# Altium integrated library Altera APEX II.IntLib: 30 symbols (part 12 of 15)
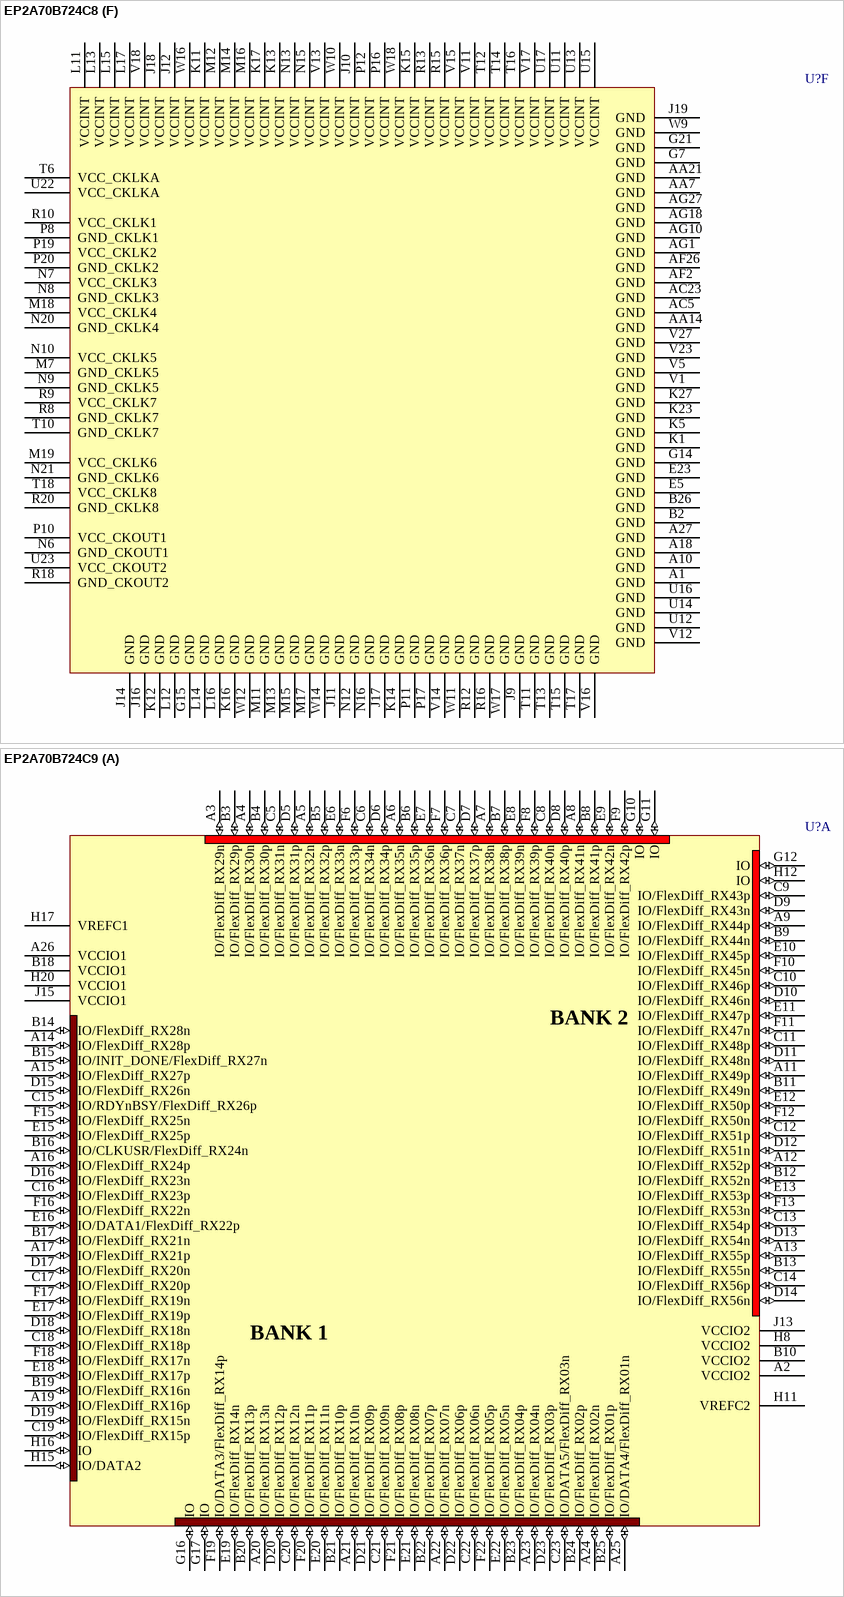
[diagram p141: symbols EP2A70B724C8 to EP2A70B724C9]

## EP2A70B724C8
designator U?
APEX II, 1.5V FPGA with 4 PLLs, 536 I/O pins, Commercial Grade, Speed Grade 8; Published: 23-Sep-2002; LatestRevisionDate: 13-Apr-2006; LatestRevisionNote: IPC-7351 Footprint Added.; DatasheetVersion: ver3.0, Aug-2002; PackageVersion: ver14.1, Oct-2005; PackageReference: BGA724; Publisher: Altium Limited; PackageDescription: 724-Ball Ball Grid Array (BGA724) - Flip Chip; Code_JEDEC: MS-034-BAR-1; ComponentLink1Description: Manufacturer Link; ComponentLink1URL: http://www.altera.com/products/devices/apex2/ap2-index.html; ComponentLink2Description: Datasheet; ComponentLink2URL: http://www.altera.com/literature/ds/ds_ap2.pdf
footprint BGA724 (BGA, 724-Leads, Body 35x35mm, Pitch 1.27mm)
3D model EP2A70-BGA724 (724-Ball Ball Grid Array (BGA724) - Flip Chip)
part A pins: A2 VCCIO2 (power), A3 IO/FlexDiff_RX29n (io), A4 IO/FlexDiff_RX30n (io), A5 IO/FlexDiff_RX32n (io), A6 IO/FlexDiff_RX35n (io), A7 IO/FlexDiff_RX38n (io), A8 IO/FlexDiff_RX41n (io), A9 IO/FlexDiff_RX44p (io), A11 IO/FlexDiff_RX49p (io), A12 IO/FlexDiff_RX52p (io), A13 IO/FlexDiff_RX55p (io), A14 IO/FlexDiff_RX28p (io), A15 IO/FlexDiff_RX27p (io), A16 IO/FlexDiff_RX24p (io), A17 IO/FlexDiff_RX21p (io), A19 IO/FlexDiff_RX16p (io), A20 IO/FlexDiff_RX13n (io), A21 IO/FlexDiff_RX10n (io), A22 IO/FlexDiff_RX07n (io), A23 IO/FlexDiff_RX04n (io), A24 IO/FlexDiff_RX02n (io), A25 IO/DATA4/FlexDiff_RX01n (io), A26 VCCIO1 (power), B3 IO/FlexDiff_RX29p (io), B4 IO/FlexDiff_RX30p (io), B5 IO/FlexDiff_RX32p (io), B6 IO/FlexDiff_RX35p (io), B7 IO/FlexDiff_RX38p (io), B8 IO/FlexDiff_RX41p (io), B9 IO/FlexDiff_RX44n (io), B10 VCCIO2 (power), B11 IO/FlexDiff_RX49n (io), B12 IO/FlexDiff_RX52n (io), B13 IO/FlexDiff_RX55n (io), B14 IO/FlexDiff_RX28n (io), B15 IO/INIT_DONE/FlexDiff_RX27n (io), B16 IO/CLKUSR/FlexDiff_RX24n (io), B17 IO/FlexDiff_RX21n (io), B18 VCCIO1 (power), B19 IO/FlexDiff_RX16n (io), B20 IO/FlexDiff_RX13p (io), B21 IO/FlexDiff_RX10p (io), B22 IO/FlexDiff_RX07p (io), B23 IO/FlexDiff_RX04p (io), B24 IO/FlexDiff_RX02p (io), B25 IO/FlexDiff_RX01p (io), C5 IO/FlexDiff_RX31n (io), C6 IO/FlexDiff_RX34n (io), C7 IO/FlexDiff_RX37n (io), C8 IO/FlexDiff_RX40n (io), C9 IO/FlexDiff_RX43p (io), C10 IO/FlexDiff_RX46p (io), C11 IO/FlexDiff_RX48p (io), C12 IO/FlexDiff_RX51p (io), C13 IO/FlexDiff_RX54p (io), C14 IO/FlexDiff_RX56p (io), C15 IO/RDYnBSY/FlexDiff_RX26p (io), C16 IO/FlexDiff_RX23p (io), C17 IO/FlexDiff_RX20p (io), C18 IO/FlexDiff_RX18p (io), C19 IO/FlexDiff_RX15p (io), C20 IO/FlexDiff_RX12n (io), C21 IO/FlexDiff_RX09n (io), C22 IO/FlexDiff_RX06n (io), C23 IO/DATA5/FlexDiff_RX03n (io), D5 IO/FlexDiff_RX31p (io), D6 IO/FlexDiff_RX34p (io), D7 IO/FlexDiff_RX37p (io), D8 IO/FlexDiff_RX40p (io), D9 IO/FlexDiff_RX43n (io), D10 IO/FlexDiff_RX46n (io), D11 IO/FlexDiff_RX48n (io), D12 IO/FlexDiff_RX51n (io), D13 IO/FlexDiff_RX54n (io), D14 IO/FlexDiff_RX56n (io), D15 IO/FlexDiff_RX26n (io), D16 IO/FlexDiff_RX23n (io), D17 IO/FlexDiff_RX20n (io), D18 IO/FlexDiff_RX18n (io), D19 IO/FlexDiff_RX15n (io), D20 IO/FlexDiff_RX12p (io), D21 IO/FlexDiff_RX09p (io), D22 IO/FlexDiff_RX06p (io), D23 IO/FlexDiff_RX03p (io), E6 IO/FlexDiff_RX33n (io), E7 IO/FlexDiff_RX36n (io), E8 IO/FlexDiff_RX39n (io), E9 IO/FlexDiff_RX42n (io), E10 IO/FlexDiff_RX45p (io), E11 IO/FlexDiff_RX47p (io), E12 IO/FlexDiff_RX50p (io), E13 IO/FlexDiff_RX53p (io), E15 IO/FlexDiff_RX25p (io), E16 IO/DATA1/FlexDiff_RX22p (io), E17 IO/FlexDiff_RX19p (io), E18 IO/FlexDiff_RX17p (io), E19 IO/FlexDiff_RX14n (io), E20 IO/FlexDiff_RX11n (io), E21 IO/FlexDiff_RX08n (io), E22 IO/FlexDiff_RX05n (io), F6 IO/FlexDiff_RX33p (io), F7 IO/FlexDiff_RX36p (io), F8 IO/FlexDiff_RX39p (io), F9 IO/FlexDiff_RX42p (io), F10 IO/FlexDiff_RX45n (io), F11 IO/FlexDiff_RX47n (io), F12 IO/FlexDiff_RX50n (io), F13 IO/FlexDiff_RX53n (io), F15 IO/FlexDiff_RX25n (io), F16 IO/FlexDiff_RX22n (io), F17 IO/FlexDiff_RX19n (io), F18 IO/FlexDiff_RX17n (io), F19 IO/DATA3/FlexDiff_RX14p (io), F20 IO/FlexDiff_RX11p (io), F21 IO/FlexDiff_RX08p (io), F22 IO/FlexDiff_RX05p (io), G10 IO (io), G11 IO (io), G12 IO (io), G16 IO (io), G17 IO (io), H8 VCCIO2 (power), H11 VREFC2 (power), H12 IO (io), H15 IO/DATA2 (io), H16 IO (io), H17 VREFC1 (power), H20 VCCIO1 (power), J13 VCCIO2 (power), J15 VCCIO1 (power)
part B pins: AA1 IO/TrueDiff_RX28n (io), AA2 IO/TrueDiff_RX28p (io), AA3 IO/TrueDiff_RX27p (io), AA4 IO/TrueDiff_RX27n (io), AA5 IO (io), AA6 IO (io), AA8 IO (io), AA9 IO (io), AB1 IO/TrueDiff_RX26n (io), AB2 IO/TrueDiff_RX26p (io), AB3 IO/TrueDiff_RX25p (io), AB4 IO/TrueDiff_RX25n (io), AB5 IO (io), AC1 IO/TrueDiff_RX24n (io), AC2 IO/TrueDiff_RX24p (io), AC3 IO/TrueDiff_RX23p (io), AC4 IO/TrueDiff_RX23n (io), AD1 IO/TrueDiff_RX22n (io), AD2 IO/TrueDiff_RX22p (io), AD3 IO/TrueDiff_RX21p (io), AD4 IO/TrueDiff_RX21n (io), AE1 IO/TrueDiff_RX20n (io), AE2 IO/TrueDiff_RX20p (io), AE3 IO/TrueDiff_RX19p (io), AE4 IO/TrueDiff_RX19n (io), AF1 VCCIO4 (power), B1 VCCIO3 (power), C1 IO/TrueDiff_RX02n (io), C2 IO/TrueDiff_RX02p (io), C3 IO/TrueDiff_RX01p (io), C4 IO/TrueDiff_RX01n (io), D1 IO/TrueDiff_RX04n (io), D2 IO/TrueDiff_RX04p (io), D3 IO/TrueDiff_RX03p (io), D4 IO/TrueDiff_RX03n (io), E1 IO/TrueDiff_RX06n (io), E2 IO/TrueDiff_RX06p (io), E3 IO/TrueDiff_RX05p (io), E4 IO/TrueDiff_RX05n (io), F1 IO/TrueDiff_RX08n (io), F2 IO/TrueDiff_RX08p (io), F3 IO/TrueDiff_RX07p (io), F4 IO/TrueDiff_RX07n (io), F5 IO (io), G1 IO/TrueDiff_RX10n (io), G2 IO/TrueDiff_RX10p (io), G3 IO/TrueDiff_RX09p (io), G4 IO/TrueDiff_RX09n (io), G5 IO (io), G6 IO (io), G8 IO (io), G9 IO (io), H1 IO/TrueDiff_RX12n (io), H2 IO/TrueDiff_RX12p (io), H3 IO/TrueDiff_RX11p (io), H4 IO/TrueDiff_RX11n (io), H5 IO (io), H6 IO (io), H7 IO (io), H9 IO (io), H10 IO (io), J1 IO/TrueDiff_RX14n (io), J2 IO/TrueDiff_RX14p (io), J3 IO/TrueDiff_RX13p (io), J4 IO/TrueDiff_RX13n (io), J5 IO (io), J6 IO (io), J7 IO (io), J8 IO (io), K2 VCCIO3 (power), K3 IO/TrueDiff_RX15p (io), K4 IO/TrueDiff_RX15n (io), K6 IO (io), K7 IO (io), K8 IO (io), K9 IO (io), K10 VCCIO3 (power), L1 IO/TrueDiff_RX17p (io), L2 IO/TrueDiff_RX17n (io), L3 IO/TrueDiff_RX16n (io), L4 IO/TrueDiff_RX16p (io), L5 IO (io), L6 IO/LOCK3 (io), L7 IO/RXLOCK1 (io), L8 IO (io), L9 IO (io), L10 IO (io), M1 IO/TrueDiff_RX18n (io), M2 IO/TrueDiff_RX18p (io), M3 CLK7p (in), M4 IO/CLK7n (io), M5 IO (io), M6 IO (io), M8 IO (io), M9 IO (io), M10 VREFC3 (power), N1 IO/RXCLK_IN1n (io), N2 IO/RXCLK_IN1p (io), N3 IO/CLK5n (io), N4 CLK5p (in), N11 VCCIO3 (power), P1 IO/CLKLK_OUT1n (io), P2 CLKLK_OUT1p (out), P3 CLK1p (in), P4 IO/CLK1n (io), R1 IO/RXCLK_IN2n (io), R2 IO/RXCLK_IN2p (io), R3 CLK3p (in), R4 IO/CLK3n (io), R5 IO (io), R6 IO (io), R7 IO (io), R11 VCCIO4 (power), T1 IO/TrueDiff_RX36n (io), T2 IO/TrueDiff_RX36p (io), T3 IO/CLKLK_FB1n (io), T4 CLKLK_FB1p, T5 IO/LOCK1 (io), T7 IO (io), T8 IO (io), T9 VREFC4 (power), U1 IO/TrueDiff_RX35p (io), U2 IO/TrueDiff_RX35n (io), U3 IO/TrueDiff_RX34n (io), U4 IO/TrueDiff_RX34p (io), U5 IO (io), U6 IO (io), U7 IO (io), U8 IO (io), U9 IO (io), U10 IO (io), V2 VCCIO4 (power), V3 IO/TrueDiff_RX33p (io), V4 IO/TrueDiff_RX33n (io), V6 IO/RXLOCK2 (io), V7 IO (io), V8 IO (io), V9 IO (io), V10 VCCIO4 (power), W1 IO/TrueDiff_RX32n (io), W2 IO/TrueDiff_RX32p (io), W3 IO/TrueDiff_RX31p (io), W4 IO/TrueDiff_RX31n (io), W5 IO (io), W6 IO (io), W7 IO (io), W8 IO (io), Y1 IO/TrueDiff_RX30n (io), Y2 IO/TrueDiff_RX30p (io), Y3 IO/TrueDiff_RX29p (io), Y4 IO/TrueDiff_RX29n (io), Y5 IO (io), Y6 IO (io), Y7 IO (io), Y9 IO (io), Y10 IO (io), Y11 IO (io), Y12 IO (io)
part C pins: AA10 IO (io), AA11 IO (io), AA12 VREFC5 (power), AA13 IO (io), AA17 IO (io), AA18 IO (io), AB6 IO/FlexDiff_TX33n (io), AB7 IO/FlexDiff_TX36p (io), AB8 IO/FlexDiff_TX39n (io), AB9 IO/FlexDiff_TX42p (io), AB10 IO/FlexDiff_TX45n (io), AB11 IO/FlexDiff_TX47n (io), AB12 IO/FlexDiff_TX50n (io), AB13 IO/FlexDiff_TX53n (io), AB15 IO/FlexDiff_TX25p (io), AB16 IO/FlexDiff_TX22p (io), AB17 IO/FlexDiff_TX19p (io), AB18 IO/FlexDiff_TX17n (io), AB19 IO/FlexDiff_TX14p (io), AB20 IO/FlexDiff_TX11n (io), AB21 IO/FlexDiff_TX08p (io), AB22 IO/FlexDiff_TX05n (io), AC6 IO/FlexDiff_TX33p (io), AC7 IO/FlexDiff_TX36n (io), AC8 IO/FlexDiff_TX39p (io), AC9 IO/FlexDiff_TX42n (io), AC10 IO/FlexDiff_TX45p (io), AC11 IO/FlexDiff_TX47p (io), AC12 IO/FlexDiff_TX50p (io), AC13 IO/FlexDiff_TX53p (io), AC15 IO/FlexDiff_TX25n (io), AC16 IO/FlexDiff_TX22n (io), AC17 IO/FlexDiff_TX19n (io), AC18 IO/FlexDiff_TX17p (io), AC19 IO/FlexDiff_TX14n (io), AC20 IO/FlexDiff_TX11p (io), AC21 IO/FlexDiff_TX08n (io), AC22 IO/FlexDiff_TX05p (io), AD5 IO/FlexDiff_TX31n (io), AD6 IO/FlexDiff_TX34p (io), AD7 IO/FlexDiff_TX37n (io), AD8 IO/FlexDiff_TX40p (io), AD9 IO/FlexDiff_TX43n (io), AD10 IO/FlexDiff_TX46n (io), AD11 IO/FlexDiff_TX48n (io), AD12 IO/FlexDiff_TX51n (io), AD13 IO/FlexDiff_TX54n (io), AD14 IO/FlexDiff_TX56n (io), AD15 IO/FlexDiff_TX26n (io), AD16 IO/FlexDiff_TX23p (io), AD17 IO/FlexDiff_TX20n (io), AD18 IO/FlexDiff_TX18n (io), AD19 IO/FlexDiff_TX15p (io), AD20 IO/FlexDiff_TX12p (io), AD21 IO/FlexDiff_TX09n (io), AD22 IO/FlexDiff_TX06p (io), AD23 IO/FlexDiff_TX03n (io), AE5 IO/FlexDiff_TX31p (io), AE6 IO/FlexDiff_TX34n (io), AE7 IO/FlexDiff_TX37p (io), AE8 IO/FlexDiff_TX40n (io), AE9 IO/FlexDiff_TX43p (io), AE10 IO/FlexDiff_TX46p (io), AE11 IO/FlexDiff_TX48p (io), AE12 IO/FlexDiff_TX51p (io), AE13 IO/FlexDiff_TX54p (io), AE14 IO/FlexDiff_TX56p (io), AE15 IO/FlexDiff_TX26p (io), AE16 IO/FlexDiff_TX23n (io), AE17 IO/FlexDiff_TX20p (io), AE18 IO/FlexDiff_TX18p (io), AE19 IO/FlexDiff_TX15n (io), AE20 IO/FlexDiff_TX12n (io), AE21 IO/FlexDiff_TX09p (io), AE22 IO/FlexDiff_TX06n (io), AE23 IO/FlexDiff_TX03p (io), AF3 IO/FlexDiff_TX29n (io), AF4 IO/FlexDiff_TX30p (io), AF5 IO/FlexDiff_TX32p (io), AF6 IO/FlexDiff_TX35n (io), AF7 IO/FlexDiff_TX38p (io), AF8 IO/FlexDiff_TX41n (io), AF9 IO/FlexDiff_TX44n (io), AF10 VCCIO5 (power), AF11 IO/FlexDiff_TX49n (io), AF12 IO/FlexDiff_TX52n (io), AF13 IO/FlexDiff_TX55n (io), AF14 IO/FlexDiff_TX28n (io), AF15 IO/FlexDiff_TX27p (io), AF16 IO/FlexDiff_TX24n (io), AF17 IO/FlexDiff_TX21p (io), AF18 VCCIO6 (power), AF19 IO/FlexDiff_TX16n (io), AF20 IO/FlexDiff_TX13n (io), AF21 IO/FlexDiff_TX10p (io), AF22 IO/FlexDiff_TX07n (io), AF23 IO/FlexDiff_TX04p (io), AF24 IO/FlexDiff_TX02p (io), AF25 IO/FlexDiff_TX01n (io), AG2 VCCIO5 (power), AG3 IO/FlexDiff_TX29p (io), AG4 IO/FlexDiff_TX30n (io), AG5 IO/FlexDiff_TX32n (io), AG6 IO/FlexDiff_TX35p (io), AG7 IO/FlexDiff_TX38n (io), AG8 IO/FlexDiff_TX41p (io), AG9 IO/FlexDiff_TX44p (io), AG11 IO/FlexDiff_TX49p (io), AG12 IO/FlexDiff_TX52p (io), AG13 IO/FlexDiff_TX55p (io), AG14 IO/FlexDiff_TX28p (io), AG15 IO/FlexDiff_TX27n (io), AG16 IO/FlexDiff_TX24p (io), AG17 IO/FlexDiff_TX21n (io), AG19 IO/FlexDiff_TX16p (io), AG20 IO/FlexDiff_TX13p (io), AG21 IO/FlexDiff_TX10n (io), AG22 IO/FlexDiff_TX07p (io), AG23 IO/FlexDiff_TX04n (io), AG24 IO/FlexDiff_TX02n (io), AG25 IO/FlexDiff_TX01p (io), AG26 VCCIO6 (power), W13 VCCIO5 (power), W15 VCCIO6 (power), Y8 VCCIO5 (power), Y13 IO (io), Y16 IO/CDS_ENA (io), Y17 VREFC6 (power), Y18 IO (io), Y20 VCCIO6 (power)
part D pins: AA19 IO (io), AA20 IO (io), AA22 IO (io), AA23 IO (io), AA24 IO/TrueDiff_TX27n (io), AA25 IO/TrueDiff_TX27p (io), AA26 IO/TrueDiff_TX28p (io), AA27 IO/TrueDiff_TX28n (io), AB23 IO (io), AB24 IO/TrueDiff_TX25n (io), AB25 IO/TrueDiff_TX25p (io), AB26 IO/TrueDiff_TX26p (io), AB27 IO/TrueDiff_TX26n (io), AC24 IO/TrueDiff_TX23n (io), AC25 IO/TrueDiff_TX23p (io), AC26 IO/TrueDiff_TX24p (io), AC27 IO/TrueDiff_TX24n (io), AD24 IO/TrueDiff_TX21n (io), AD25 IO/TrueDiff_TX21p (io), AD26 IO/TrueDiff_TX22p (io), AD27 IO/TrueDiff_TX22n (io), AE24 IO/TrueDiff_TX19n (io), AE25 IO/TrueDiff_TX19p (io), AE26 IO/TrueDiff_TX20p (io), AE27 IO/TrueDiff_TX20n (io), AF27 VCCIO7 (power), B27 VCCIO8 (power), C24 IO/TrueDiff_TX01n (io), C25 IO/TrueDiff_TX01p (io), C26 IO/TrueDiff_TX02p (io), C27 IO/TrueDiff_TX02n (io), D24 IO/TrueDiff_TX03n (io), D25 IO/TrueDiff_TX03p (io), D26 IO/TrueDiff_TX04p (io), D27 IO/TrueDiff_TX04n (io), E24 IO/TrueDiff_TX05n (io), E25 IO/TrueDiff_TX05p (io), E26 IO/TrueDiff_TX06p (io), E27 IO/TrueDiff_TX06n (io), F23 IO (io), F24 IO/TrueDiff_TX07n (io), F25 IO/TrueDiff_TX07p (io), F26 IO/TrueDiff_TX08p (io), F27 IO/TrueDiff_TX08n (io), G18 IO (io), G19 IO (io), G20 IO (io), G22 IO (io), G23 IO (io), G24 IO/TrueDiff_TX09n (io), G25 IO/TrueDiff_TX09p (io), G26 IO/TrueDiff_TX10p (io), G27 IO/TrueDiff_TX10n (io), H18 IO (io), H19 IO (io), H21 IO (io), H22 IO (io), H23 IO (io), H24 IO/TrueDiff_TX11n (io), H25 IO/TrueDiff_TX11p (io), H26 IO/TrueDiff_TX12p (io), H27 IO/TrueDiff_TX12n (io), J20 IO/nWS (io), J21 IO/nRS (io), J22 IO (io), J23 IO (io), J24 IO/TrueDiff_TX13n (io), J25 IO/TrueDiff_TX13p (io), J26 IO/TrueDiff_TX14p (io), J27 IO/TrueDiff_TX14n (io), K18 VCCIO8 (power), K19 IO/DEV_CLRn (io), K20 IO/nCS (io), K21 IO/CS (io), K22 IO/DATA6 (io), K24 IO/TrueDiff_TX15n (io), K25 IO/TrueDiff_TX15p (io), K26 VCCIO8 (power), L18 IO/TXLOCK1 (io), L19 VREFC8 (power), L20 IO (io), L21 IO/LOCK4 (io), L22 IO (io), L23 IO/DATA7 (io), L24 IO/TrueDiff_TX16p (io), L25 IO/TrueDiff_TX16n (io), L26 IO/TrueDiff_TX17n (io), L27 IO/TrueDiff_TX17p (io), M20 IO (io), M21 IO (io), M22 IO (io), M23 IO (io), M24 IO/TXCLK_OUT1n (io), M25 IO/TXCLK_OUT1p (io), M26 IO/TrueDiff_TX18p (io), M27 IO/TrueDiff_TX18n (io), N17 VCCIO8 (power), N18 IO (io), N19 IO (io), N22 IO/CLK4n (io), N23 CLK4p (in), N24 CLKLK_FB2p, N25 IO/CLKLK_FB2n (io), N26 IO (io), N27 IO (io), P23 IO (io), P24 CLK2p (in), P25 IO/CLK2n (io), P26 IO/CLKLK_OUT2n (io), P27 CLKLK_OUT2p (out), R17 VCCIO7 (power), R19 IO/LOCK2 (io), R21 IO/DEV_OE (io), R22 IO/CLK6n (io), R23 CLK6p (in), R24 IO/CLK8n (io), R25 CLK8p (in), R26 IO (io), R27 IO (io), T19 VREFC7 (power), T20 IO (io), T21 IO (io), T24 IO/TXCLK_OUT2n (io), T25 IO/TXCLK_OUT2p (io), T26 IO/TrueDiff_TX36p (io), T27 IO/TrueDiff_TX36n (io), U18 IO (io), U19 IO (io), U20 IO (io), U21 IO (io), U24 IO/TrueDiff_TX34p (io), U25 IO/TrueDiff_TX34n (io), U26 IO/TrueDiff_TX35n (io), U27 IO/TrueDiff_TX35p (io), V19 IO (io), V20 IO (io), V21 IO (io), V22 IO (io), V24 IO/TrueDiff_TX33n (io), V25 IO/TrueDiff_TX33p (io), V26 VCCIO7 (power), W19 VCCIO7 (power), W20 IO (io), W21 IO (io), W22 IO/TXLOCK2 (io), W23 IO (io), W24 IO/TrueDiff_TX31n (io), W25 IO/TrueDiff_TX31p (io), W26 IO/TrueDiff_TX32p (io), W27 IO/TrueDiff_TX32n (io), Y19 IO (io), Y21 IO (io), Y22 IO (io), Y23 IO (io), Y24 IO/TrueDiff_TX29n (io), Y25 IO/TrueDiff_TX29p (io), Y26 IO/TrueDiff_TX30p (io), Y27 IO/TrueDiff_TX30n (io)
part E pins: AA15 CONF_DONE (in), AA16 FAST4 (in), AB14 TMS (in), AC14 FAST3 (in), E14 FAST1 (in), F14 TDO (out), G13 nCEO (out), H13 TRST (in), H14 FAST2 (in), N5 MSEL1 (in), P5 VCCSEL (in), P6 nCONFIG (in), P7 PLL_ENA (in), P9 MSEL0 (in), P18 DATA0 (in), P21 DCLK (in), P22 nIO_PULLUP (in), T22 TDI (in), T23 nCE (in), Y14 TCK (in), Y15 nSTATUS (in)
part F pins: A1 GND (power), A10 GND (power), A18 GND (power), A27 GND (power), AA7 GND (power), AA14 GND (power), AA21 GND (power), AC5 GND (power), AC23 GND (power), AF2 GND (power), AF26 GND (power), AG1 GND (power), AG10 GND (power), AG18 GND (power), AG27 GND (power), B2 GND (power), B26 GND (power), E5 GND (power), E23 GND (power), G7 GND (power), G14 GND (power), G15 GND (power), G21 GND (power), J9 GND (power), J10 VCCINT (power), J11 GND (power), J12 VCCINT (power), J14 GND (power), J16 GND (power), J17 GND (power), J18 VCCINT (power), J19 GND (power), K1 GND (power), K5 GND (power), K11 VCCINT (power), K12 GND (power), K13 VCCINT (power), K14 GND (power), K15 VCCINT (power), K16 GND (power), K17 VCCINT (power), K23 GND (power), K27 GND (power), L11 VCCINT (power), L12 GND (power), L13 VCCINT (power), L14 GND (power), L15 VCCINT (power), L16 GND (power), L17 VCCINT (power), M7 GND_CKLK5 (power), M11 GND (power), M12 VCCINT (power), M13 GND (power), M14 VCCINT (power), M15 GND (power), M16 VCCINT (power), M17 GND (power), M18 VCC_CKLK4 (power), M19 VCC_CKLK6 (power), N6 GND_CKOUT1 (power), N7 VCC_CKLK3 (power), N8 GND_CKLK3 (power), N9 GND_CKLK5 (power), N10 VCC_CKLK5 (power), N12 GND (power), N13 VCCINT (power), N15 VCCINT (power), N16 GND (power), N20 GND_CKLK4 (power), N21 GND_CKLK6 (power), P8 GND_CKLK1 (power), P10 VCC_CKOUT1 (power), P11 GND (power), P12 VCCINT (power), P16 VCCINT (power), P17 GND (power), P19 VCC_CKLK2 (power), P20 GND_CKLK2 (power), R8 GND_CKLK7 (power), R9 VCC_CKLK7 (power), R10 VCC_CKLK1 (power), R12 GND (power), R13 VCCINT (power), R15 VCCINT (power), R16 GND (power), R18 GND_CKOUT2 (power), R20 GND_CKLK8 (power), T6 VCC_CKLKA (power), T10 GND_CKLK7 (power), T11 GND (power), T12 VCCINT (power), T13 GND (power), T14 VCCINT (power), T15 GND (power), T16 VCCINT (power), T17 GND (power), T18 VCC_CKLK8 (power), U11 VCCINT (power), U12 GND (power), U13 VCCINT (power), U14 GND (power), U15 VCCINT (power), U16 GND (power), U17 VCCINT (power), U22 VCC_CKLKA (power), U23 VCC_CKOUT2 (power), V1 GND (power), V5 GND (power), V11 VCCINT (power), V12 GND (power), V13 VCCINT (power), V14 GND (power), V15 VCCINT (power), V16 GND (power), V17 VCCINT (power), V18 VCCINT (power), V23 GND (power), V27 GND (power), W9 GND (power), W10 VCCINT (power), W11 GND (power), W12 GND (power), W14 GND (power), W16 VCCINT (power), W17 GND (power), W18 VCCINT (power)
part A text: BANK 2; BANK 1
part B text: BANK 4; BANK 3
part C text: BANK 6; BANK 5
part D text: BANK 8; BANK 7

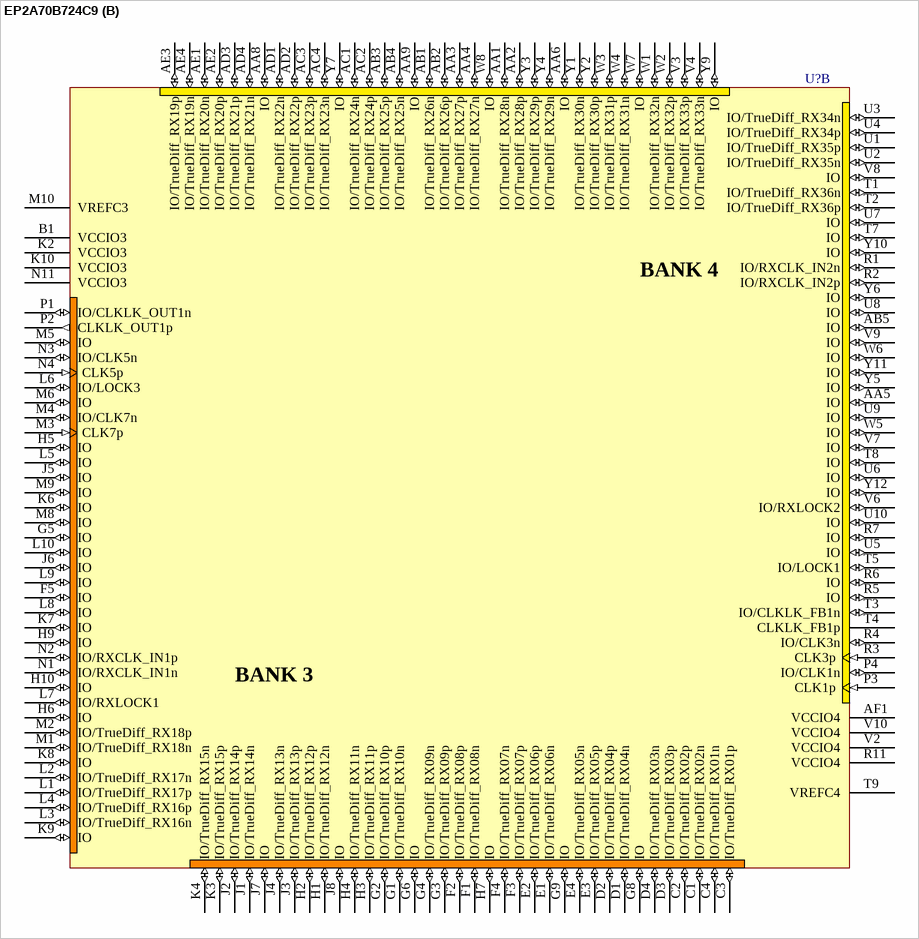
[diagram p109: symbol EP2A70B724C9]

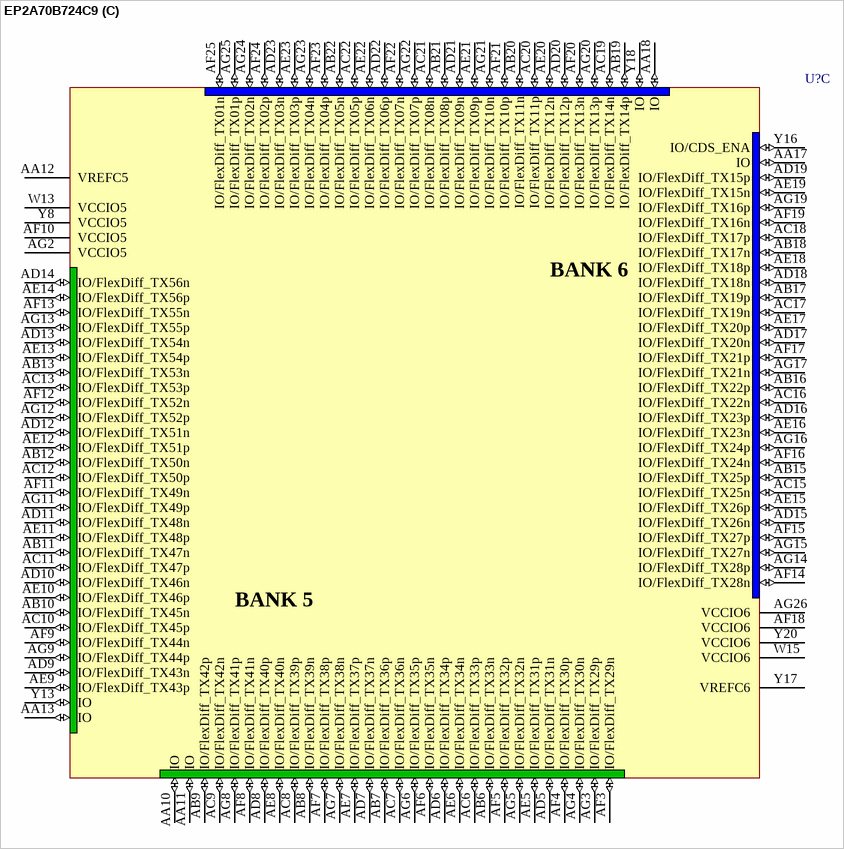
[diagram p110: symbol EP2A70B724C9]

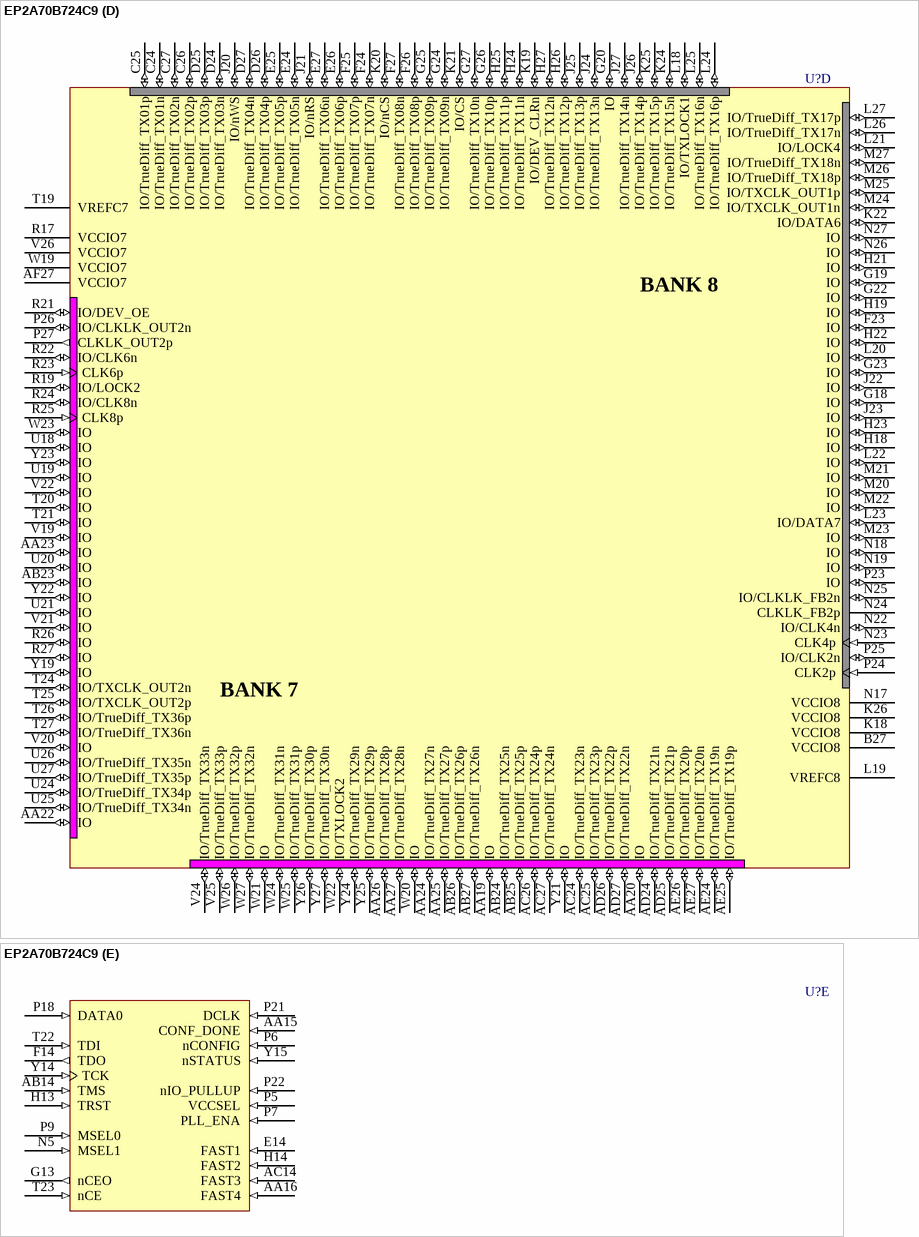
[diagram p111: symbol EP2A70B724C9]

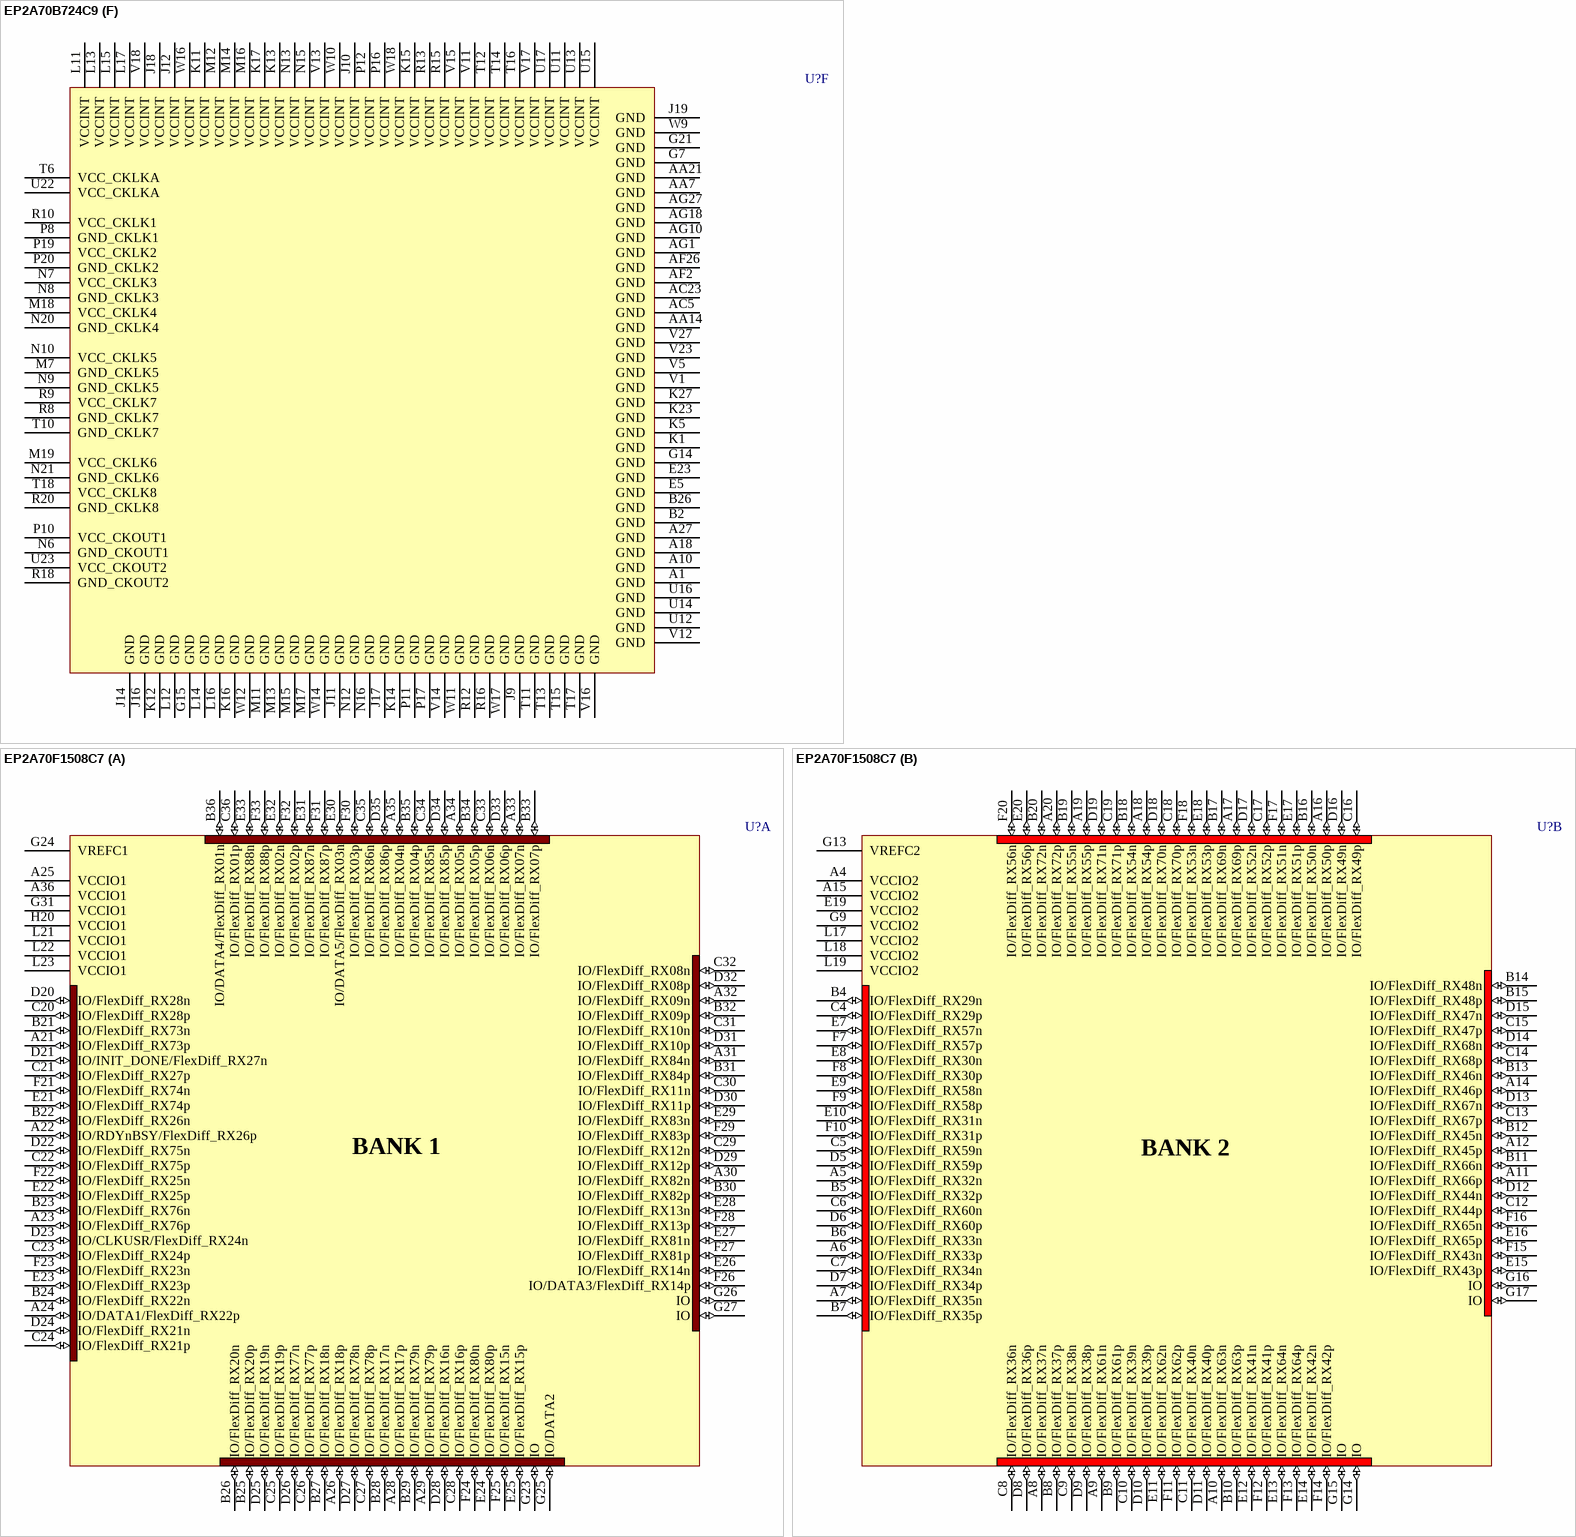
[diagram p112: symbols EP2A70B724C9 to EP2A70F1508C7]

## EP2A70B724C9
designator U?
APEX II, 1.5V FPGA with 4 PLLs, 536 I/O pins, Commercial Grade, Speed Grade 9; Published: 23-Sep-2002; LatestRevisionDate: 13-Apr-2006; LatestRevisionNote: IPC-7351 Footprint Added.; DatasheetVersion: ver3.0, Aug-2002; PackageVersion: ver14.1, Oct-2005; PackageReference: BGA724; Publisher: Altium Limited; PackageDescription: 724-Ball Ball Grid Array (BGA724) - Flip Chip; Code_JEDEC: MS-034-BAR-1; ComponentLink1Description: Manufacturer Link; ComponentLink1URL: http://www.altera.com/products/devices/apex2/ap2-index.html; ComponentLink2Description: Datasheet; ComponentLink2URL: http://www.altera.com/literature/ds/ds_ap2.pdf
footprint BGA724 (BGA, 724-Leads, Body 35x35mm, Pitch 1.27mm)
3D model EP2A70-BGA724 (724-Ball Ball Grid Array (BGA724) - Flip Chip)
part A pins: A2 VCCIO2 (power), A3 IO/FlexDiff_RX29n (io), A4 IO/FlexDiff_RX30n (io), A5 IO/FlexDiff_RX32n (io), A6 IO/FlexDiff_RX35n (io), A7 IO/FlexDiff_RX38n (io), A8 IO/FlexDiff_RX41n (io), A9 IO/FlexDiff_RX44p (io), A11 IO/FlexDiff_RX49p (io), A12 IO/FlexDiff_RX52p (io), A13 IO/FlexDiff_RX55p (io), A14 IO/FlexDiff_RX28p (io), A15 IO/FlexDiff_RX27p (io), A16 IO/FlexDiff_RX24p (io), A17 IO/FlexDiff_RX21p (io), A19 IO/FlexDiff_RX16p (io), A20 IO/FlexDiff_RX13n (io), A21 IO/FlexDiff_RX10n (io), A22 IO/FlexDiff_RX07n (io), A23 IO/FlexDiff_RX04n (io), A24 IO/FlexDiff_RX02n (io), A25 IO/DATA4/FlexDiff_RX01n (io), A26 VCCIO1 (power), B3 IO/FlexDiff_RX29p (io), B4 IO/FlexDiff_RX30p (io), B5 IO/FlexDiff_RX32p (io), B6 IO/FlexDiff_RX35p (io), B7 IO/FlexDiff_RX38p (io), B8 IO/FlexDiff_RX41p (io), B9 IO/FlexDiff_RX44n (io), B10 VCCIO2 (power), B11 IO/FlexDiff_RX49n (io), B12 IO/FlexDiff_RX52n (io), B13 IO/FlexDiff_RX55n (io), B14 IO/FlexDiff_RX28n (io), B15 IO/INIT_DONE/FlexDiff_RX27n (io), B16 IO/CLKUSR/FlexDiff_RX24n (io), B17 IO/FlexDiff_RX21n (io), B18 VCCIO1 (power), B19 IO/FlexDiff_RX16n (io), B20 IO/FlexDiff_RX13p (io), B21 IO/FlexDiff_RX10p (io), B22 IO/FlexDiff_RX07p (io), B23 IO/FlexDiff_RX04p (io), B24 IO/FlexDiff_RX02p (io), B25 IO/FlexDiff_RX01p (io), C5 IO/FlexDiff_RX31n (io), C6 IO/FlexDiff_RX34n (io), C7 IO/FlexDiff_RX37n (io), C8 IO/FlexDiff_RX40n (io), C9 IO/FlexDiff_RX43p (io), C10 IO/FlexDiff_RX46p (io), C11 IO/FlexDiff_RX48p (io), C12 IO/FlexDiff_RX51p (io), C13 IO/FlexDiff_RX54p (io), C14 IO/FlexDiff_RX56p (io), C15 IO/RDYnBSY/FlexDiff_RX26p (io), C16 IO/FlexDiff_RX23p (io), C17 IO/FlexDiff_RX20p (io), C18 IO/FlexDiff_RX18p (io), C19 IO/FlexDiff_RX15p (io), C20 IO/FlexDiff_RX12n (io), C21 IO/FlexDiff_RX09n (io), C22 IO/FlexDiff_RX06n (io), C23 IO/DATA5/FlexDiff_RX03n (io), D5 IO/FlexDiff_RX31p (io), D6 IO/FlexDiff_RX34p (io), D7 IO/FlexDiff_RX37p (io), D8 IO/FlexDiff_RX40p (io), D9 IO/FlexDiff_RX43n (io), D10 IO/FlexDiff_RX46n (io), D11 IO/FlexDiff_RX48n (io), D12 IO/FlexDiff_RX51n (io), D13 IO/FlexDiff_RX54n (io), D14 IO/FlexDiff_RX56n (io), D15 IO/FlexDiff_RX26n (io), D16 IO/FlexDiff_RX23n (io), D17 IO/FlexDiff_RX20n (io), D18 IO/FlexDiff_RX18n (io), D19 IO/FlexDiff_RX15n (io), D20 IO/FlexDiff_RX12p (io), D21 IO/FlexDiff_RX09p (io), D22 IO/FlexDiff_RX06p (io), D23 IO/FlexDiff_RX03p (io), E6 IO/FlexDiff_RX33n (io), E7 IO/FlexDiff_RX36n (io), E8 IO/FlexDiff_RX39n (io), E9 IO/FlexDiff_RX42n (io), E10 IO/FlexDiff_RX45p (io), E11 IO/FlexDiff_RX47p (io), E12 IO/FlexDiff_RX50p (io), E13 IO/FlexDiff_RX53p (io), E15 IO/FlexDiff_RX25p (io), E16 IO/DATA1/FlexDiff_RX22p (io), E17 IO/FlexDiff_RX19p (io), E18 IO/FlexDiff_RX17p (io), E19 IO/FlexDiff_RX14n (io), E20 IO/FlexDiff_RX11n (io), E21 IO/FlexDiff_RX08n (io), E22 IO/FlexDiff_RX05n (io), F6 IO/FlexDiff_RX33p (io), F7 IO/FlexDiff_RX36p (io), F8 IO/FlexDiff_RX39p (io), F9 IO/FlexDiff_RX42p (io), F10 IO/FlexDiff_RX45n (io), F11 IO/FlexDiff_RX47n (io), F12 IO/FlexDiff_RX50n (io), F13 IO/FlexDiff_RX53n (io), F15 IO/FlexDiff_RX25n (io), F16 IO/FlexDiff_RX22n (io), F17 IO/FlexDiff_RX19n (io), F18 IO/FlexDiff_RX17n (io), F19 IO/DATA3/FlexDiff_RX14p (io), F20 IO/FlexDiff_RX11p (io), F21 IO/FlexDiff_RX08p (io), F22 IO/FlexDiff_RX05p (io), G10 IO (io), G11 IO (io), G12 IO (io), G16 IO (io), G17 IO (io), H8 VCCIO2 (power), H11 VREFC2 (power), H12 IO (io), H15 IO/DATA2 (io), H16 IO (io), H17 VREFC1 (power), H20 VCCIO1 (power), J13 VCCIO2 (power), J15 VCCIO1 (power)
part B pins: AA1 IO/TrueDiff_RX28n (io), AA2 IO/TrueDiff_RX28p (io), AA3 IO/TrueDiff_RX27p (io), AA4 IO/TrueDiff_RX27n (io), AA5 IO (io), AA6 IO (io), AA8 IO (io), AA9 IO (io), AB1 IO/TrueDiff_RX26n (io), AB2 IO/TrueDiff_RX26p (io), AB3 IO/TrueDiff_RX25p (io), AB4 IO/TrueDiff_RX25n (io), AB5 IO (io), AC1 IO/TrueDiff_RX24n (io), AC2 IO/TrueDiff_RX24p (io), AC3 IO/TrueDiff_RX23p (io), AC4 IO/TrueDiff_RX23n (io), AD1 IO/TrueDiff_RX22n (io), AD2 IO/TrueDiff_RX22p (io), AD3 IO/TrueDiff_RX21p (io), AD4 IO/TrueDiff_RX21n (io), AE1 IO/TrueDiff_RX20n (io), AE2 IO/TrueDiff_RX20p (io), AE3 IO/TrueDiff_RX19p (io), AE4 IO/TrueDiff_RX19n (io), AF1 VCCIO4 (power), B1 VCCIO3 (power), C1 IO/TrueDiff_RX02n (io), C2 IO/TrueDiff_RX02p (io), C3 IO/TrueDiff_RX01p (io), C4 IO/TrueDiff_RX01n (io), D1 IO/TrueDiff_RX04n (io), D2 IO/TrueDiff_RX04p (io), D3 IO/TrueDiff_RX03p (io), D4 IO/TrueDiff_RX03n (io), E1 IO/TrueDiff_RX06n (io), E2 IO/TrueDiff_RX06p (io), E3 IO/TrueDiff_RX05p (io), E4 IO/TrueDiff_RX05n (io), F1 IO/TrueDiff_RX08n (io), F2 IO/TrueDiff_RX08p (io), F3 IO/TrueDiff_RX07p (io), F4 IO/TrueDiff_RX07n (io), F5 IO (io), G1 IO/TrueDiff_RX10n (io), G2 IO/TrueDiff_RX10p (io), G3 IO/TrueDiff_RX09p (io), G4 IO/TrueDiff_RX09n (io), G5 IO (io), G6 IO (io), G8 IO (io), G9 IO (io), H1 IO/TrueDiff_RX12n (io), H2 IO/TrueDiff_RX12p (io), H3 IO/TrueDiff_RX11p (io), H4 IO/TrueDiff_RX11n (io), H5 IO (io), H6 IO (io), H7 IO (io), H9 IO (io), H10 IO (io), J1 IO/TrueDiff_RX14n (io), J2 IO/TrueDiff_RX14p (io), J3 IO/TrueDiff_RX13p (io), J4 IO/TrueDiff_RX13n (io), J5 IO (io), J6 IO (io), J7 IO (io), J8 IO (io), K2 VCCIO3 (power), K3 IO/TrueDiff_RX15p (io), K4 IO/TrueDiff_RX15n (io), K6 IO (io), K7 IO (io), K8 IO (io), K9 IO (io), K10 VCCIO3 (power), L1 IO/TrueDiff_RX17p (io), L2 IO/TrueDiff_RX17n (io), L3 IO/TrueDiff_RX16n (io), L4 IO/TrueDiff_RX16p (io), L5 IO (io), L6 IO/LOCK3 (io), L7 IO/RXLOCK1 (io), L8 IO (io), L9 IO (io), L10 IO (io), M1 IO/TrueDiff_RX18n (io), M2 IO/TrueDiff_RX18p (io), M3 CLK7p (in), M4 IO/CLK7n (io), M5 IO (io), M6 IO (io), M8 IO (io), M9 IO (io), M10 VREFC3 (power), N1 IO/RXCLK_IN1n (io), N2 IO/RXCLK_IN1p (io), N3 IO/CLK5n (io), N4 CLK5p (in), N11 VCCIO3 (power), P1 IO/CLKLK_OUT1n (io), P2 CLKLK_OUT1p (out), P3 CLK1p (in), P4 IO/CLK1n (io), R1 IO/RXCLK_IN2n (io), R2 IO/RXCLK_IN2p (io), R3 CLK3p (in), R4 IO/CLK3n (io), R5 IO (io), R6 IO (io), R7 IO (io), R11 VCCIO4 (power), T1 IO/TrueDiff_RX36n (io), T2 IO/TrueDiff_RX36p (io), T3 IO/CLKLK_FB1n (io), T4 CLKLK_FB1p, T5 IO/LOCK1 (io), T7 IO (io), T8 IO (io), T9 VREFC4 (power), U1 IO/TrueDiff_RX35p (io), U2 IO/TrueDiff_RX35n (io), U3 IO/TrueDiff_RX34n (io), U4 IO/TrueDiff_RX34p (io), U5 IO (io), U6 IO (io), U7 IO (io), U8 IO (io), U9 IO (io), U10 IO (io), V2 VCCIO4 (power), V3 IO/TrueDiff_RX33p (io), V4 IO/TrueDiff_RX33n (io), V6 IO/RXLOCK2 (io), V7 IO (io), V8 IO (io), V9 IO (io), V10 VCCIO4 (power), W1 IO/TrueDiff_RX32n (io), W2 IO/TrueDiff_RX32p (io), W3 IO/TrueDiff_RX31p (io), W4 IO/TrueDiff_RX31n (io), W5 IO (io), W6 IO (io), W7 IO (io), W8 IO (io), Y1 IO/TrueDiff_RX30n (io), Y2 IO/TrueDiff_RX30p (io), Y3 IO/TrueDiff_RX29p (io), Y4 IO/TrueDiff_RX29n (io), Y5 IO (io), Y6 IO (io), Y7 IO (io), Y9 IO (io), Y10 IO (io), Y11 IO (io), Y12 IO (io)
part C pins: AA10 IO (io), AA11 IO (io), AA12 VREFC5 (power), AA13 IO (io), AA17 IO (io), AA18 IO (io), AB6 IO/FlexDiff_TX33n (io), AB7 IO/FlexDiff_TX36p (io), AB8 IO/FlexDiff_TX39n (io), AB9 IO/FlexDiff_TX42p (io), AB10 IO/FlexDiff_TX45n (io), AB11 IO/FlexDiff_TX47n (io), AB12 IO/FlexDiff_TX50n (io), AB13 IO/FlexDiff_TX53n (io), AB15 IO/FlexDiff_TX25p (io), AB16 IO/FlexDiff_TX22p (io), AB17 IO/FlexDiff_TX19p (io), AB18 IO/FlexDiff_TX17n (io), AB19 IO/FlexDiff_TX14p (io), AB20 IO/FlexDiff_TX11n (io), AB21 IO/FlexDiff_TX08p (io), AB22 IO/FlexDiff_TX05n (io), AC6 IO/FlexDiff_TX33p (io), AC7 IO/FlexDiff_TX36n (io), AC8 IO/FlexDiff_TX39p (io), AC9 IO/FlexDiff_TX42n (io), AC10 IO/FlexDiff_TX45p (io), AC11 IO/FlexDiff_TX47p (io), AC12 IO/FlexDiff_TX50p (io), AC13 IO/FlexDiff_TX53p (io), AC15 IO/FlexDiff_TX25n (io), AC16 IO/FlexDiff_TX22n (io), AC17 IO/FlexDiff_TX19n (io), AC18 IO/FlexDiff_TX17p (io), AC19 IO/FlexDiff_TX14n (io), AC20 IO/FlexDiff_TX11p (io), AC21 IO/FlexDiff_TX08n (io), AC22 IO/FlexDiff_TX05p (io), AD5 IO/FlexDiff_TX31n (io), AD6 IO/FlexDiff_TX34p (io), AD7 IO/FlexDiff_TX37n (io), AD8 IO/FlexDiff_TX40p (io), AD9 IO/FlexDiff_TX43n (io), AD10 IO/FlexDiff_TX46n (io), AD11 IO/FlexDiff_TX48n (io), AD12 IO/FlexDiff_TX51n (io), AD13 IO/FlexDiff_TX54n (io), AD14 IO/FlexDiff_TX56n (io), AD15 IO/FlexDiff_TX26n (io), AD16 IO/FlexDiff_TX23p (io), AD17 IO/FlexDiff_TX20n (io), AD18 IO/FlexDiff_TX18n (io), AD19 IO/FlexDiff_TX15p (io), AD20 IO/FlexDiff_TX12p (io), AD21 IO/FlexDiff_TX09n (io), AD22 IO/FlexDiff_TX06p (io), AD23 IO/FlexDiff_TX03n (io), AE5 IO/FlexDiff_TX31p (io), AE6 IO/FlexDiff_TX34n (io), AE7 IO/FlexDiff_TX37p (io), AE8 IO/FlexDiff_TX40n (io), AE9 IO/FlexDiff_TX43p (io), AE10 IO/FlexDiff_TX46p (io), AE11 IO/FlexDiff_TX48p (io), AE12 IO/FlexDiff_TX51p (io), AE13 IO/FlexDiff_TX54p (io), AE14 IO/FlexDiff_TX56p (io), AE15 IO/FlexDiff_TX26p (io), AE16 IO/FlexDiff_TX23n (io), AE17 IO/FlexDiff_TX20p (io), AE18 IO/FlexDiff_TX18p (io), AE19 IO/FlexDiff_TX15n (io), AE20 IO/FlexDiff_TX12n (io), AE21 IO/FlexDiff_TX09p (io), AE22 IO/FlexDiff_TX06n (io), AE23 IO/FlexDiff_TX03p (io), AF3 IO/FlexDiff_TX29n (io), AF4 IO/FlexDiff_TX30p (io), AF5 IO/FlexDiff_TX32p (io), AF6 IO/FlexDiff_TX35n (io), AF7 IO/FlexDiff_TX38p (io), AF8 IO/FlexDiff_TX41n (io), AF9 IO/FlexDiff_TX44n (io), AF10 VCCIO5 (power), AF11 IO/FlexDiff_TX49n (io), AF12 IO/FlexDiff_TX52n (io), AF13 IO/FlexDiff_TX55n (io), AF14 IO/FlexDiff_TX28n (io), AF15 IO/FlexDiff_TX27p (io), AF16 IO/FlexDiff_TX24n (io), AF17 IO/FlexDiff_TX21p (io), AF18 VCCIO6 (power), AF19 IO/FlexDiff_TX16n (io), AF20 IO/FlexDiff_TX13n (io), AF21 IO/FlexDiff_TX10p (io), AF22 IO/FlexDiff_TX07n (io), AF23 IO/FlexDiff_TX04p (io), AF24 IO/FlexDiff_TX02p (io), AF25 IO/FlexDiff_TX01n (io), AG2 VCCIO5 (power), AG3 IO/FlexDiff_TX29p (io), AG4 IO/FlexDiff_TX30n (io), AG5 IO/FlexDiff_TX32n (io), AG6 IO/FlexDiff_TX35p (io), AG7 IO/FlexDiff_TX38n (io), AG8 IO/FlexDiff_TX41p (io), AG9 IO/FlexDiff_TX44p (io), AG11 IO/FlexDiff_TX49p (io), AG12 IO/FlexDiff_TX52p (io), AG13 IO/FlexDiff_TX55p (io), AG14 IO/FlexDiff_TX28p (io), AG15 IO/FlexDiff_TX27n (io), AG16 IO/FlexDiff_TX24p (io), AG17 IO/FlexDiff_TX21n (io), AG19 IO/FlexDiff_TX16p (io), AG20 IO/FlexDiff_TX13p (io), AG21 IO/FlexDiff_TX10n (io), AG22 IO/FlexDiff_TX07p (io), AG23 IO/FlexDiff_TX04n (io), AG24 IO/FlexDiff_TX02n (io), AG25 IO/FlexDiff_TX01p (io), AG26 VCCIO6 (power), W13 VCCIO5 (power), W15 VCCIO6 (power), Y8 VCCIO5 (power), Y13 IO (io), Y16 IO/CDS_ENA (io), Y17 VREFC6 (power), Y18 IO (io), Y20 VCCIO6 (power)
part D pins: AA19 IO (io), AA20 IO (io), AA22 IO (io), AA23 IO (io), AA24 IO/TrueDiff_TX27n (io), AA25 IO/TrueDiff_TX27p (io), AA26 IO/TrueDiff_TX28p (io), AA27 IO/TrueDiff_TX28n (io), AB23 IO (io), AB24 IO/TrueDiff_TX25n (io), AB25 IO/TrueDiff_TX25p (io), AB26 IO/TrueDiff_TX26p (io), AB27 IO/TrueDiff_TX26n (io), AC24 IO/TrueDiff_TX23n (io), AC25 IO/TrueDiff_TX23p (io), AC26 IO/TrueDiff_TX24p (io), AC27 IO/TrueDiff_TX24n (io), AD24 IO/TrueDiff_TX21n (io), AD25 IO/TrueDiff_TX21p (io), AD26 IO/TrueDiff_TX22p (io), AD27 IO/TrueDiff_TX22n (io), AE24 IO/TrueDiff_TX19n (io), AE25 IO/TrueDiff_TX19p (io), AE26 IO/TrueDiff_TX20p (io), AE27 IO/TrueDiff_TX20n (io), AF27 VCCIO7 (power), B27 VCCIO8 (power), C24 IO/TrueDiff_TX01n (io), C25 IO/TrueDiff_TX01p (io), C26 IO/TrueDiff_TX02p (io), C27 IO/TrueDiff_TX02n (io), D24 IO/TrueDiff_TX03n (io), D25 IO/TrueDiff_TX03p (io), D26 IO/TrueDiff_TX04p (io), D27 IO/TrueDiff_TX04n (io), E24 IO/TrueDiff_TX05n (io), E25 IO/TrueDiff_TX05p (io), E26 IO/TrueDiff_TX06p (io), E27 IO/TrueDiff_TX06n (io), F23 IO (io), F24 IO/TrueDiff_TX07n (io), F25 IO/TrueDiff_TX07p (io), F26 IO/TrueDiff_TX08p (io), F27 IO/TrueDiff_TX08n (io), G18 IO (io), G19 IO (io), G20 IO (io), G22 IO (io), G23 IO (io), G24 IO/TrueDiff_TX09n (io), G25 IO/TrueDiff_TX09p (io), G26 IO/TrueDiff_TX10p (io), G27 IO/TrueDiff_TX10n (io), H18 IO (io), H19 IO (io), H21 IO (io), H22 IO (io), H23 IO (io), H24 IO/TrueDiff_TX11n (io), H25 IO/TrueDiff_TX11p (io), H26 IO/TrueDiff_TX12p (io), H27 IO/TrueDiff_TX12n (io), J20 IO/nWS (io), J21 IO/nRS (io), J22 IO (io), J23 IO (io), J24 IO/TrueDiff_TX13n (io), J25 IO/TrueDiff_TX13p (io), J26 IO/TrueDiff_TX14p (io), J27 IO/TrueDiff_TX14n (io), K18 VCCIO8 (power), K19 IO/DEV_CLRn (io), K20 IO/nCS (io), K21 IO/CS (io), K22 IO/DATA6 (io), K24 IO/TrueDiff_TX15n (io), K25 IO/TrueDiff_TX15p (io), K26 VCCIO8 (power), L18 IO/TXLOCK1 (io), L19 VREFC8 (power), L20 IO (io), L21 IO/LOCK4 (io), L22 IO (io), L23 IO/DATA7 (io), L24 IO/TrueDiff_TX16p (io), L25 IO/TrueDiff_TX16n (io), L26 IO/TrueDiff_TX17n (io), L27 IO/TrueDiff_TX17p (io), M20 IO (io), M21 IO (io), M22 IO (io), M23 IO (io), M24 IO/TXCLK_OUT1n (io), M25 IO/TXCLK_OUT1p (io), M26 IO/TrueDiff_TX18p (io), M27 IO/TrueDiff_TX18n (io), N17 VCCIO8 (power), N18 IO (io), N19 IO (io), N22 IO/CLK4n (io), N23 CLK4p (in), N24 CLKLK_FB2p, N25 IO/CLKLK_FB2n (io), N26 IO (io), N27 IO (io), P23 IO (io), P24 CLK2p (in), P25 IO/CLK2n (io), P26 IO/CLKLK_OUT2n (io), P27 CLKLK_OUT2p (out), R17 VCCIO7 (power), R19 IO/LOCK2 (io), R21 IO/DEV_OE (io), R22 IO/CLK6n (io), R23 CLK6p (in), R24 IO/CLK8n (io), R25 CLK8p (in), R26 IO (io), R27 IO (io), T19 VREFC7 (power), T20 IO (io), T21 IO (io), T24 IO/TXCLK_OUT2n (io), T25 IO/TXCLK_OUT2p (io), T26 IO/TrueDiff_TX36p (io), T27 IO/TrueDiff_TX36n (io), U18 IO (io), U19 IO (io), U20 IO (io), U21 IO (io), U24 IO/TrueDiff_TX34p (io), U25 IO/TrueDiff_TX34n (io), U26 IO/TrueDiff_TX35n (io), U27 IO/TrueDiff_TX35p (io), V19 IO (io), V20 IO (io), V21 IO (io), V22 IO (io), V24 IO/TrueDiff_TX33n (io), V25 IO/TrueDiff_TX33p (io), V26 VCCIO7 (power), W19 VCCIO7 (power), W20 IO (io), W21 IO (io), W22 IO/TXLOCK2 (io), W23 IO (io), W24 IO/TrueDiff_TX31n (io), W25 IO/TrueDiff_TX31p (io), W26 IO/TrueDiff_TX32p (io), W27 IO/TrueDiff_TX32n (io), Y19 IO (io), Y21 IO (io), Y22 IO (io), Y23 IO (io), Y24 IO/TrueDiff_TX29n (io), Y25 IO/TrueDiff_TX29p (io), Y26 IO/TrueDiff_TX30p (io), Y27 IO/TrueDiff_TX30n (io)
part E pins: AA15 CONF_DONE (in), AA16 FAST4 (in), AB14 TMS (in), AC14 FAST3 (in), E14 FAST1 (in), F14 TDO (out), G13 nCEO (out), H13 TRST (in), H14 FAST2 (in), N5 MSEL1 (in), P5 VCCSEL (in), P6 nCONFIG (in), P7 PLL_ENA (in), P9 MSEL0 (in), P18 DATA0 (in), P21 DCLK (in), P22 nIO_PULLUP (in), T22 TDI (in), T23 nCE (in), Y14 TCK (in), Y15 nSTATUS (in)
part F pins: A1 GND (power), A10 GND (power), A18 GND (power), A27 GND (power), AA7 GND (power), AA14 GND (power), AA21 GND (power), AC5 GND (power), AC23 GND (power), AF2 GND (power), AF26 GND (power), AG1 GND (power), AG10 GND (power), AG18 GND (power), AG27 GND (power), B2 GND (power), B26 GND (power), E5 GND (power), E23 GND (power), G7 GND (power), G14 GND (power), G15 GND (power), G21 GND (power), J9 GND (power), J10 VCCINT (power), J11 GND (power), J12 VCCINT (power), J14 GND (power), J16 GND (power), J17 GND (power), J18 VCCINT (power), J19 GND (power), K1 GND (power), K5 GND (power), K11 VCCINT (power), K12 GND (power), K13 VCCINT (power), K14 GND (power), K15 VCCINT (power), K16 GND (power), K17 VCCINT (power), K23 GND (power), K27 GND (power), L11 VCCINT (power), L12 GND (power), L13 VCCINT (power), L14 GND (power), L15 VCCINT (power), L16 GND (power), L17 VCCINT (power), M7 GND_CKLK5 (power), M11 GND (power), M12 VCCINT (power), M13 GND (power), M14 VCCINT (power), M15 GND (power), M16 VCCINT (power), M17 GND (power), M18 VCC_CKLK4 (power), M19 VCC_CKLK6 (power), N6 GND_CKOUT1 (power), N7 VCC_CKLK3 (power), N8 GND_CKLK3 (power), N9 GND_CKLK5 (power), N10 VCC_CKLK5 (power), N12 GND (power), N13 VCCINT (power), N15 VCCINT (power), N16 GND (power), N20 GND_CKLK4 (power), N21 GND_CKLK6 (power), P8 GND_CKLK1 (power), P10 VCC_CKOUT1 (power), P11 GND (power), P12 VCCINT (power), P16 VCCINT (power), P17 GND (power), P19 VCC_CKLK2 (power), P20 GND_CKLK2 (power), R8 GND_CKLK7 (power), R9 VCC_CKLK7 (power), R10 VCC_CKLK1 (power), R12 GND (power), R13 VCCINT (power), R15 VCCINT (power), R16 GND (power), R18 GND_CKOUT2 (power), R20 GND_CKLK8 (power), T6 VCC_CKLKA (power), T10 GND_CKLK7 (power), T11 GND (power), T12 VCCINT (power), T13 GND (power), T14 VCCINT (power), T15 GND (power), T16 VCCINT (power), T17 GND (power), T18 VCC_CKLK8 (power), U11 VCCINT (power), U12 GND (power), U13 VCCINT (power), U14 GND (power), U15 VCCINT (power), U16 GND (power), U17 VCCINT (power), U22 VCC_CKLKA (power), U23 VCC_CKOUT2 (power), V1 GND (power), V5 GND (power), V11 VCCINT (power), V12 GND (power), V13 VCCINT (power), V14 GND (power), V15 VCCINT (power), V16 GND (power), V17 VCCINT (power), V18 VCCINT (power), V23 GND (power), V27 GND (power), W9 GND (power), W10 VCCINT (power), W11 GND (power), W12 GND (power), W14 GND (power), W16 VCCINT (power), W17 GND (power), W18 VCCINT (power)
part A text: BANK 2; BANK 1
part B text: BANK 4; BANK 3
part C text: BANK 6; BANK 5
part D text: BANK 8; BANK 7

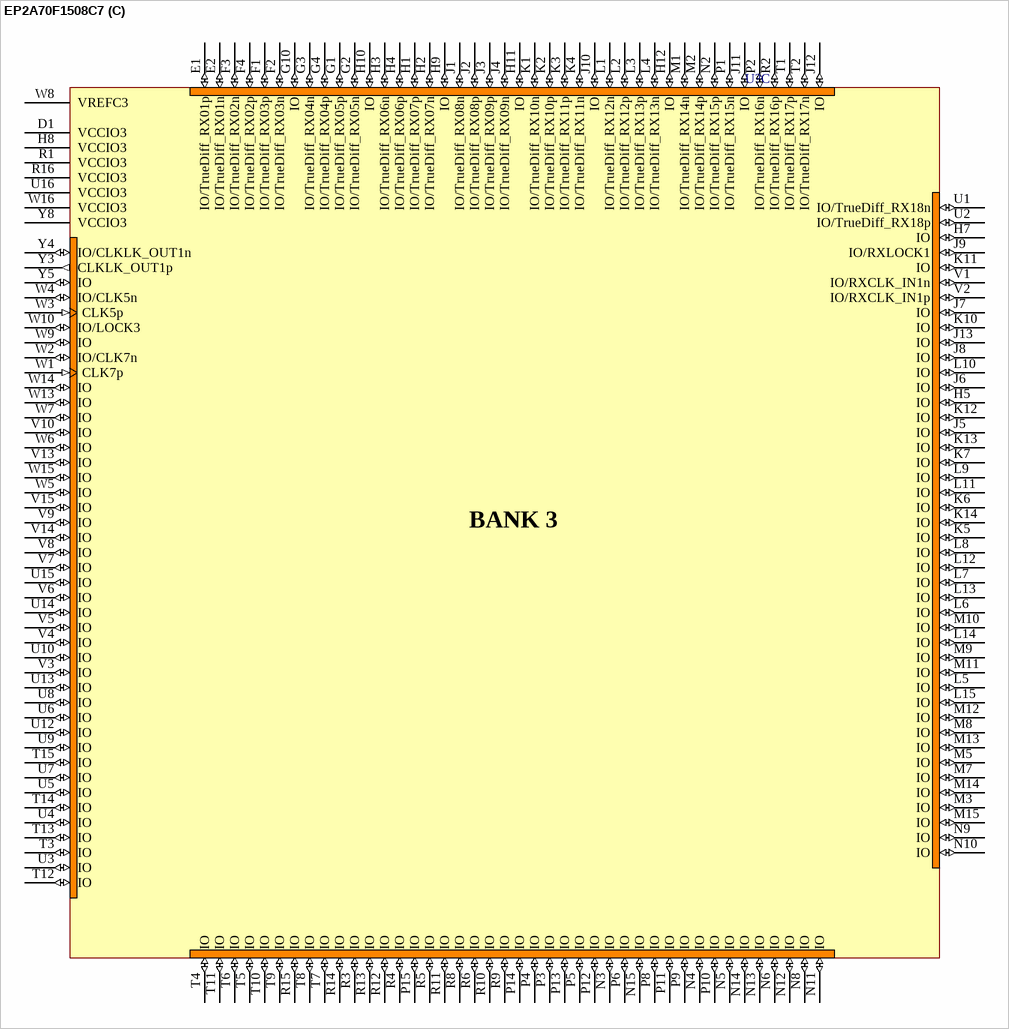
[diagram p113: symbol EP2A70F1508C7]

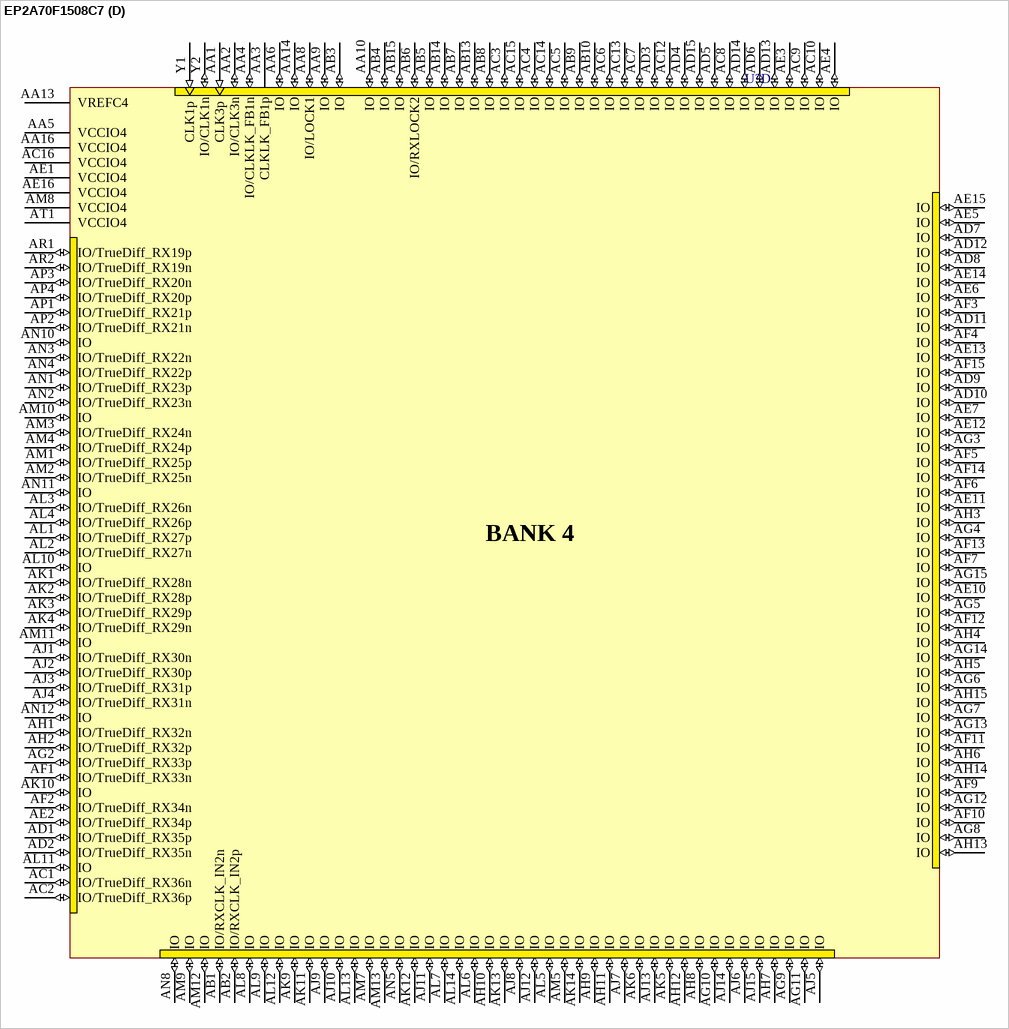
[diagram p114: symbol EP2A70F1508C7]

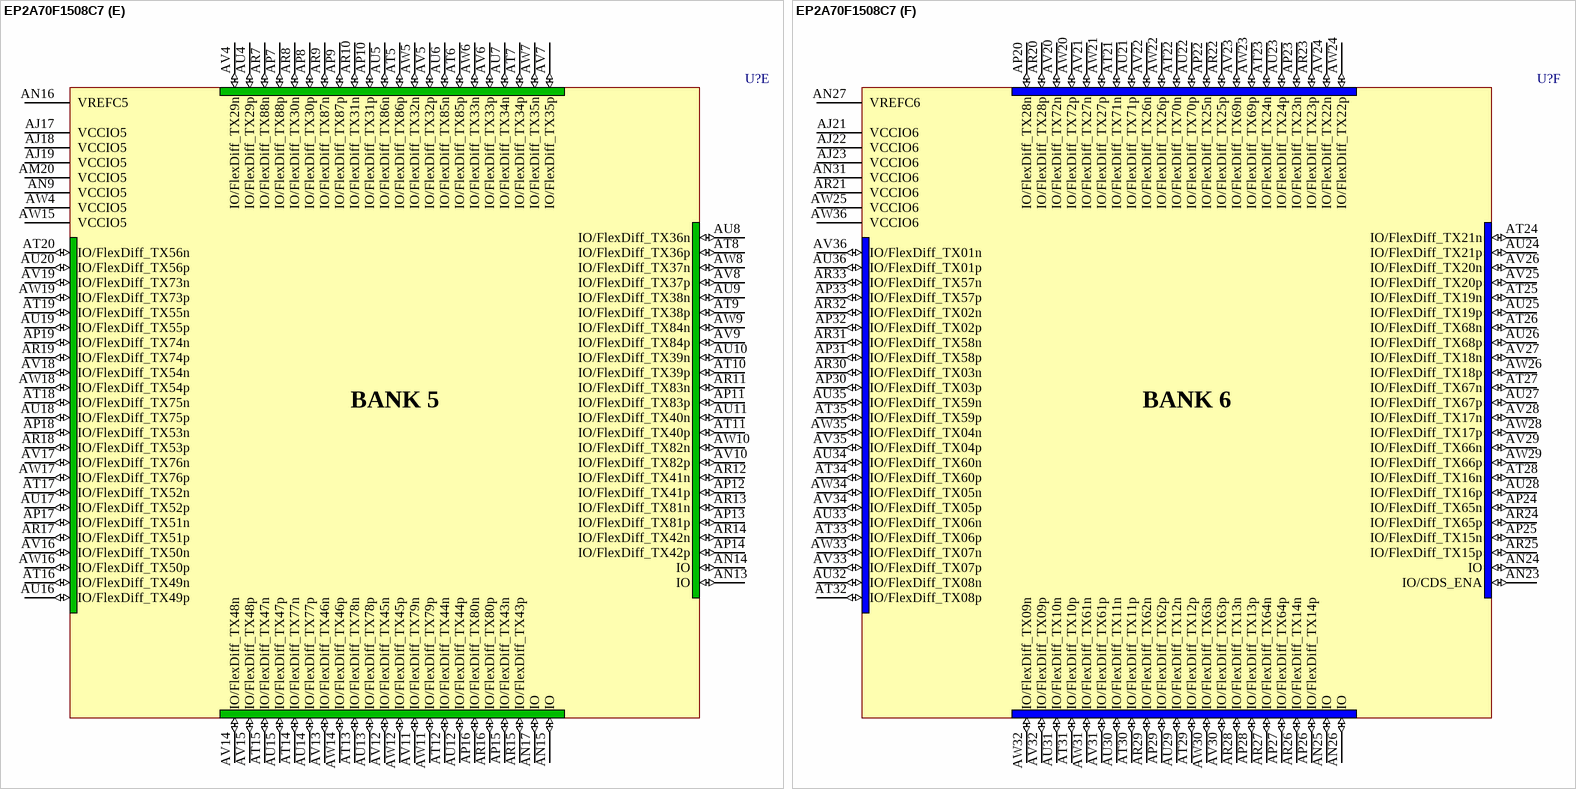
[diagram p115: symbol EP2A70F1508C7]

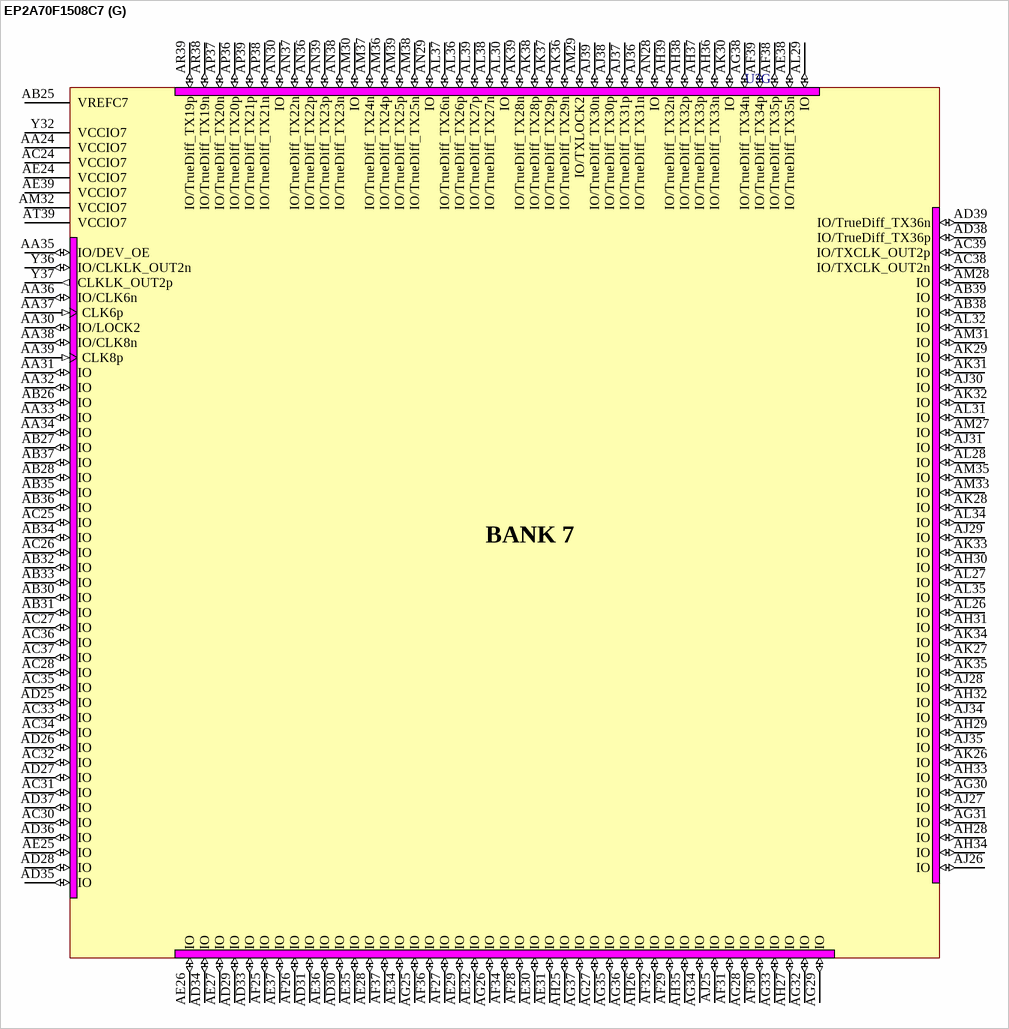
[diagram p116: symbol EP2A70F1508C7]

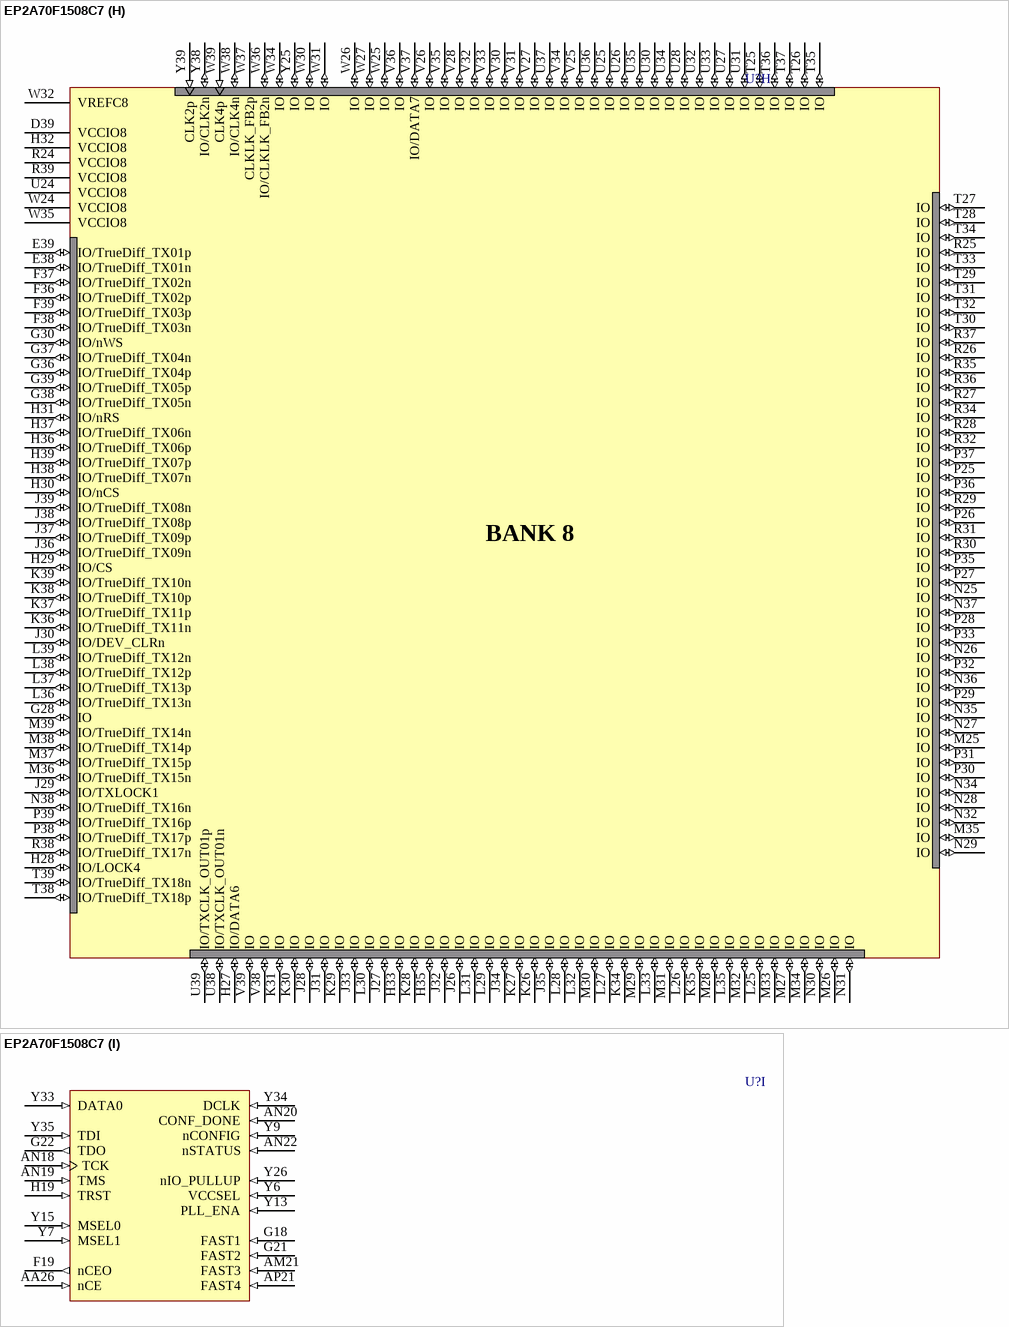
[diagram p117: symbol EP2A70F1508C7]

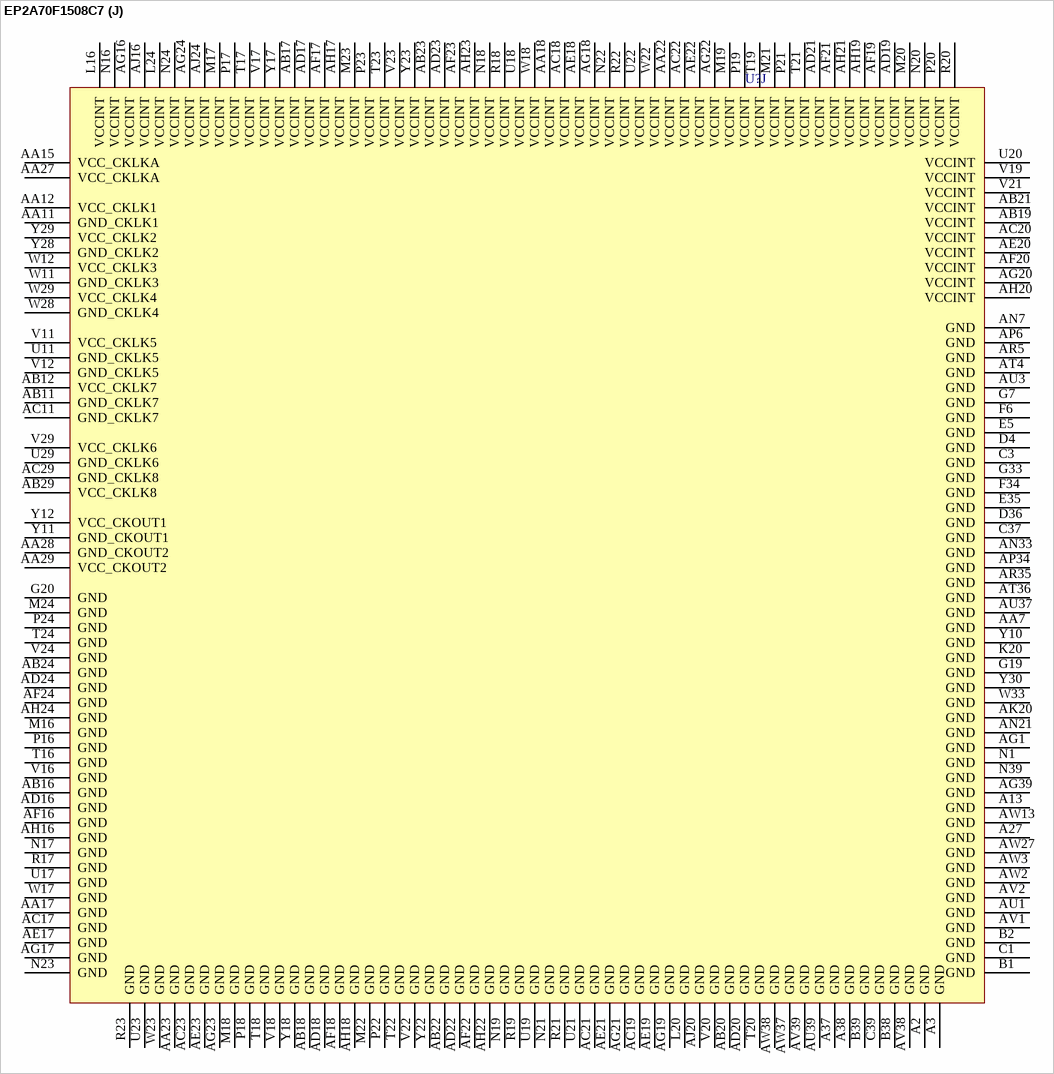
[diagram p118: symbol EP2A70F1508C7]

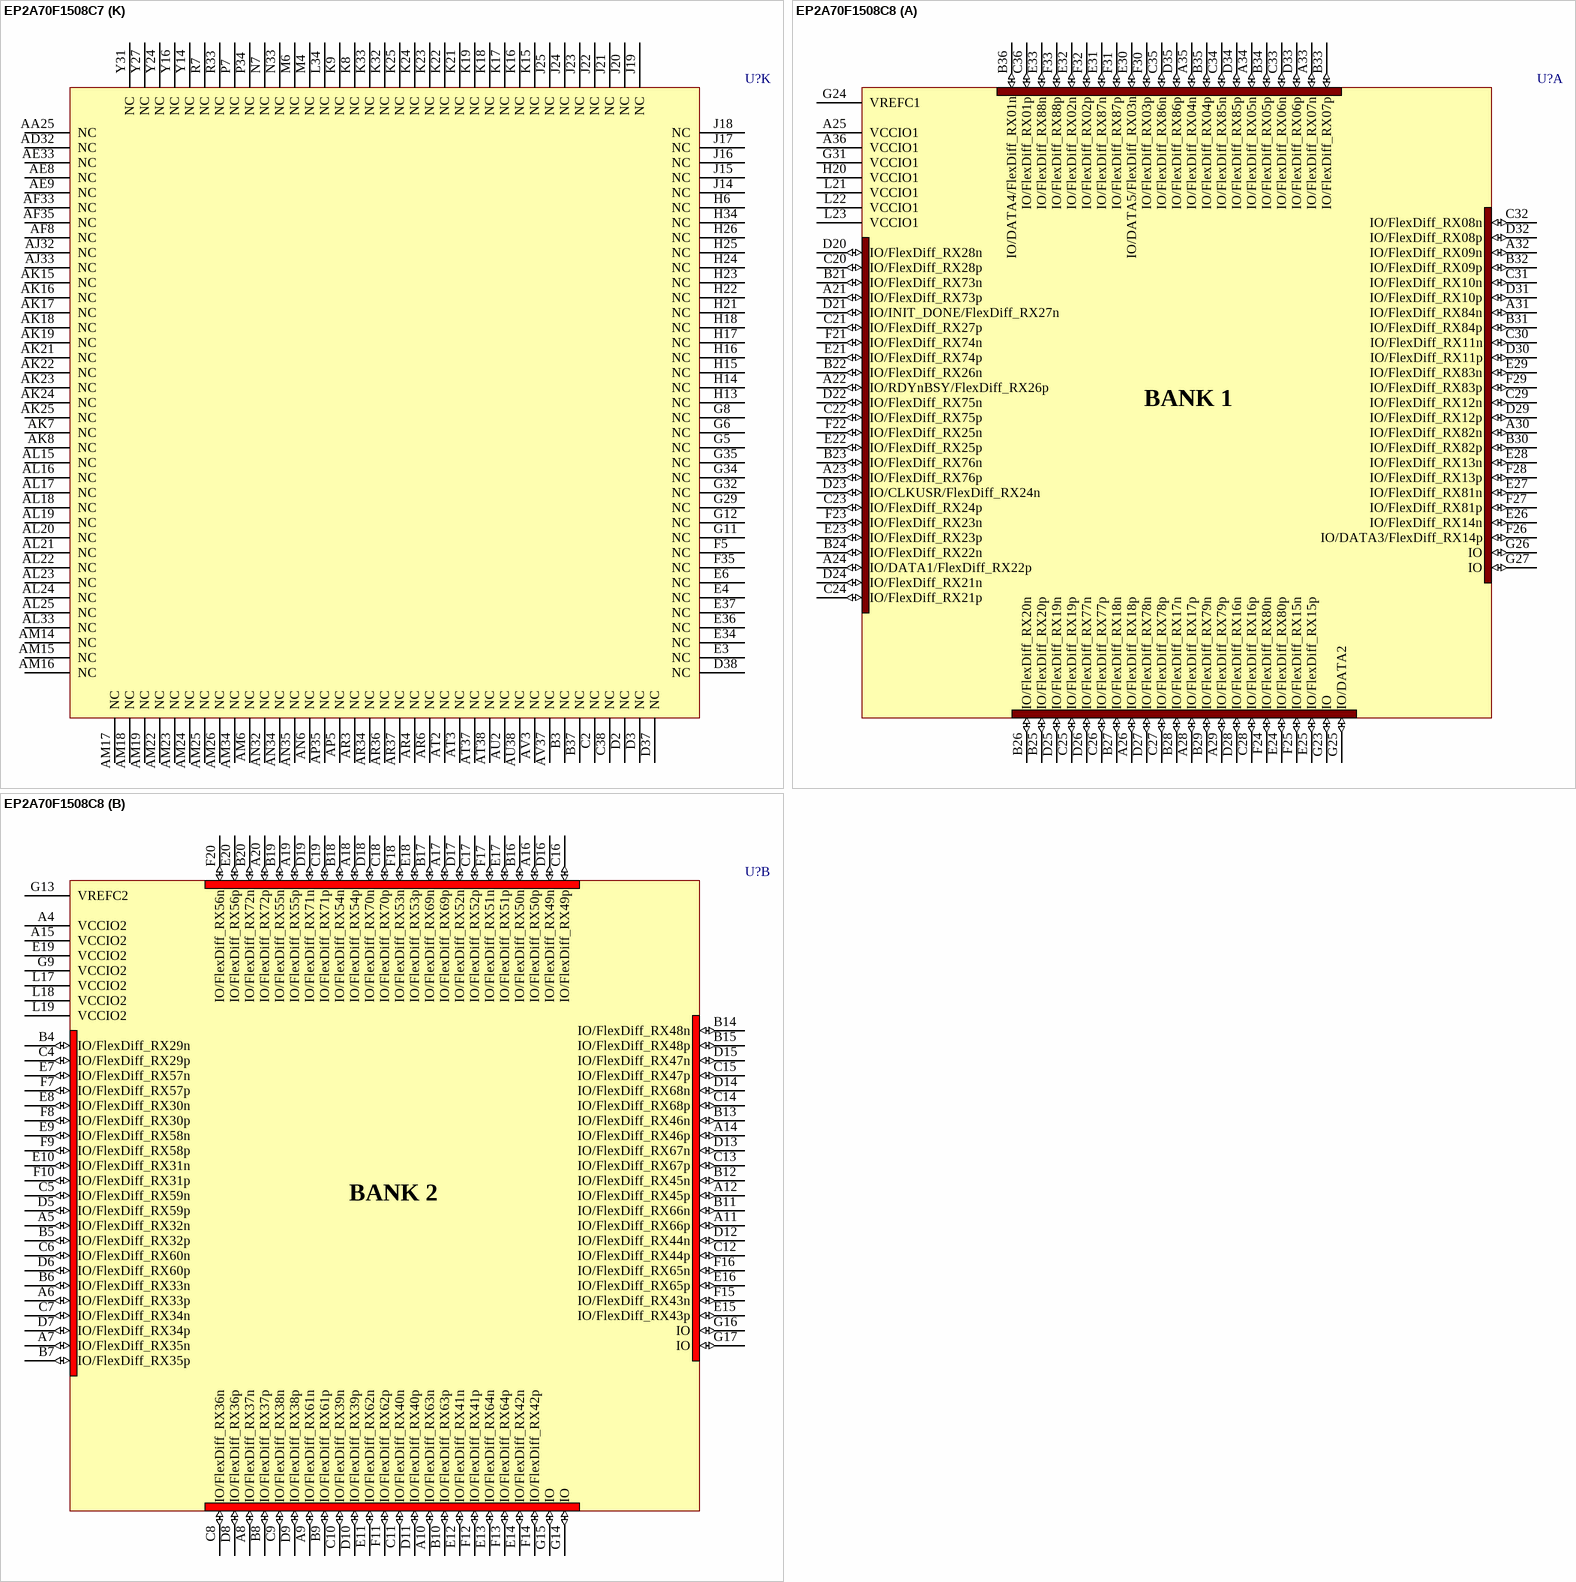
[diagram p119: symbols EP2A70F1508C7 to EP2A70F1508C8]